# Altium integrated library Actel ProASIC PLUS.IntLib: 230 symbols (part 31 of 33)
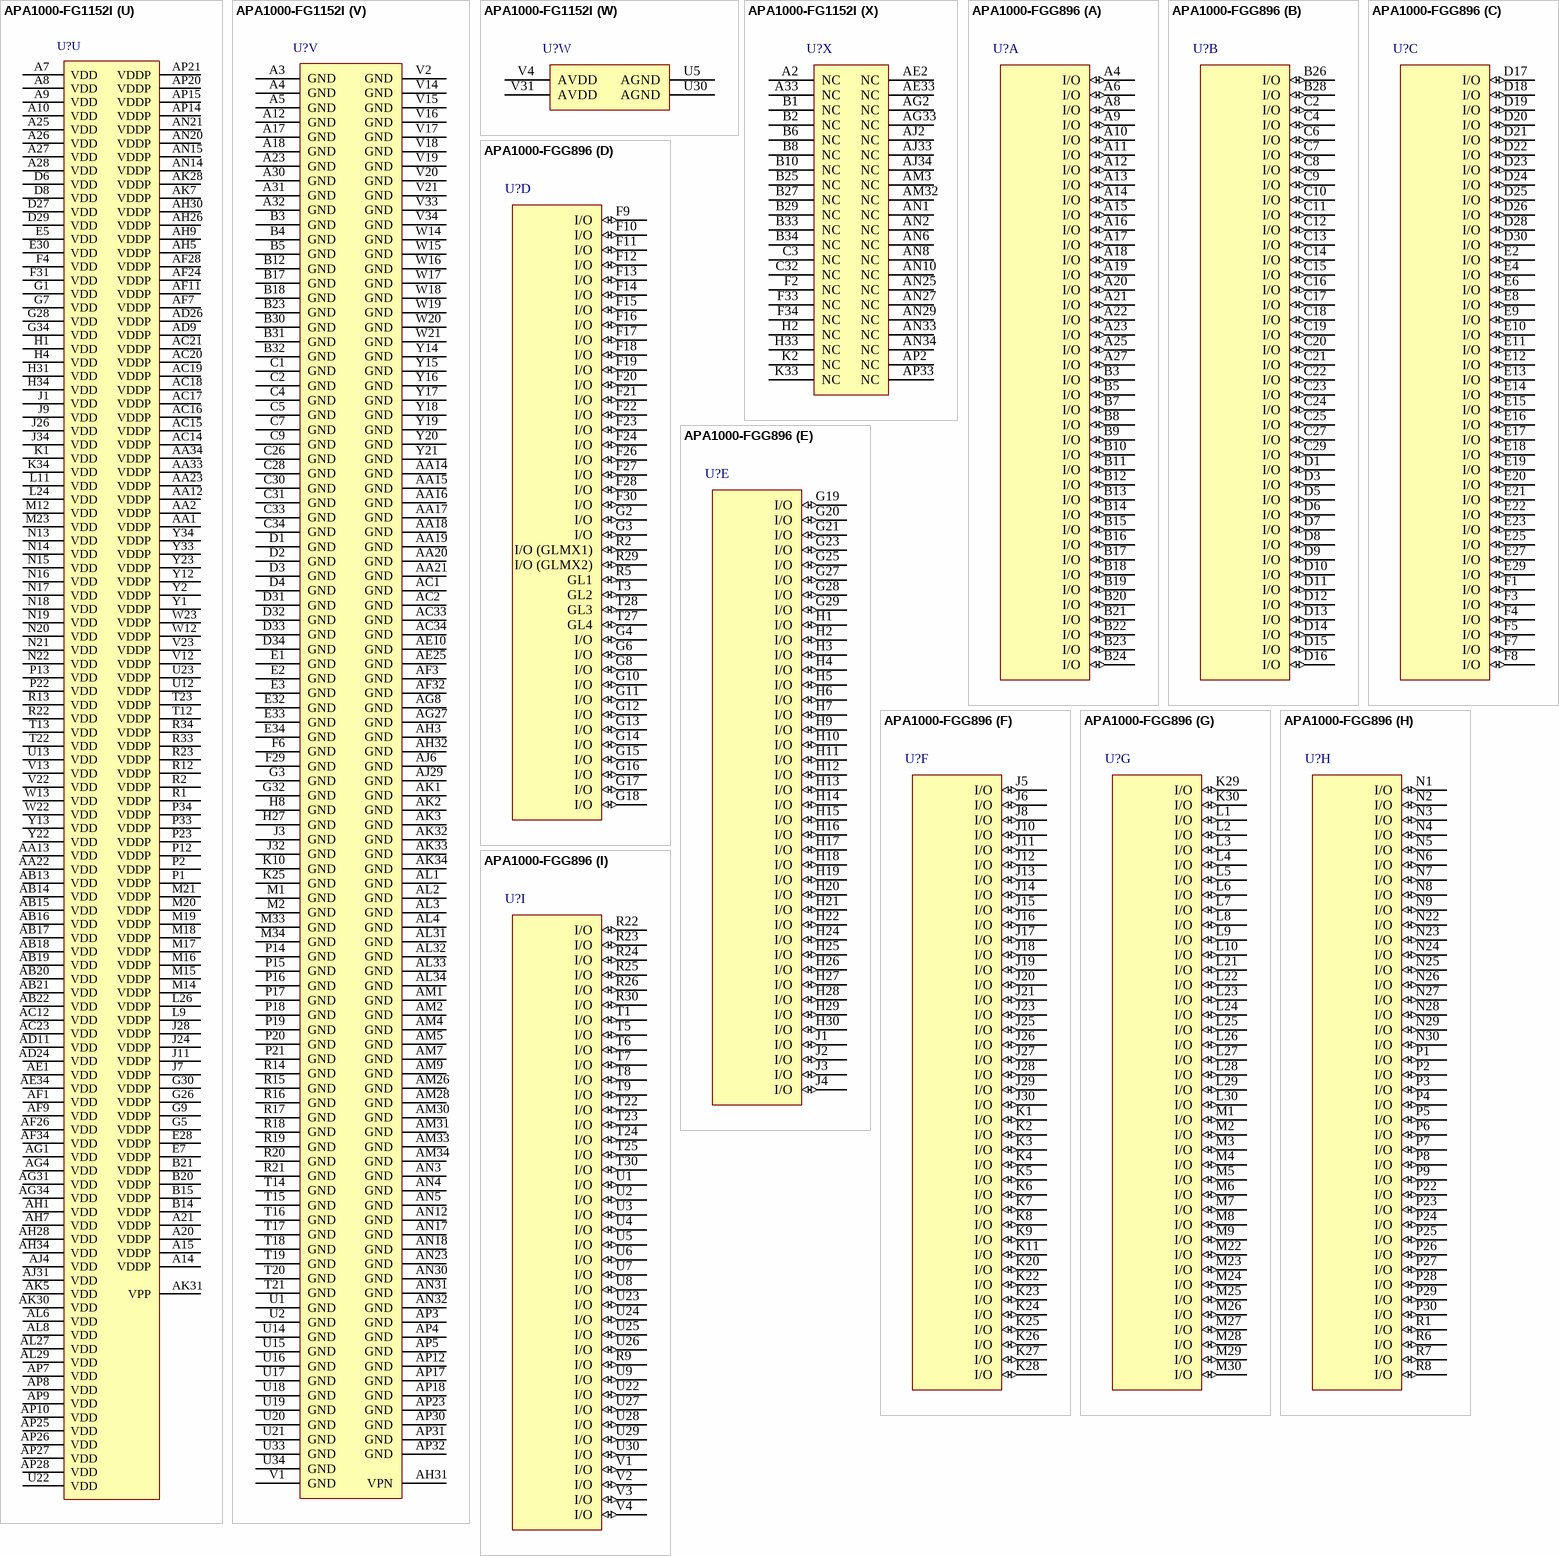
[diagram p193: symbols APA1000-FG1152I to APA1000-FGG896]

## APA1000-FG1152I
designator U?
ProASICPlus APA1000 Flash FPGA, 712 User IOs, 1152-Pin FBGA, Speed Grade Standard, Industrial Grade; Published: 21-May-2003; LatestRevisionDate: 13-Apr-2006; LatestRevisionNote: IPC-7351 Footprint Added.; DatasheetVersion: ver5.3, May-2006; PackageVersion: v9.4, Aug-2006; PackageReference: FG1152; Publisher: Altium Limited; PackageDescription: 1152-Ball Fine Pitch Plastic Ball Grid Array (FG1152); Code_JEDEC: MS-034-AAR-1; ComponentLink1Description: Manufacturer Link; ComponentLink1URL: http://www.actel.com/products/proasicplus/index.html; ComponentLink2Description: Datasheet; ComponentLink2URL: http://www.actel.com/documents/ProASICPlus_DS.pdf
footprint FG1152 (BGA, 1152-Leads, Body 35x35mm, Pitch 1mm)
3D model APA1000-FG1152 (1152-Ball Fine Pitch Plastic Ball Grid Array (FG1152))
part A pins: A6 I/O (io), A11 I/O (io), A13 I/O (io), A16 I/O (io), A19 I/O (io), A22 I/O (io), A24 I/O (io), A29 I/O (io), B7 I/O (io), B9 I/O (io), B11 I/O (io), B13 I/O (io), B16 I/O (io), B19 I/O (io), B22 I/O (io), B24 I/O (io), B26 I/O (io), B28 I/O (io), C6 I/O (io), C8 I/O (io), C10 I/O (io), C11 I/O (io), C12 I/O (io), C13 I/O (io), C14 I/O (io), C15 I/O (io), C16 I/O (io), C17 I/O (io), C18 I/O (io), C19 I/O (io), C20 I/O (io), C21 I/O (io), C22 I/O (io), C23 I/O (io), C24 I/O (io), C25 I/O (io), C27 I/O (io), C29 I/O (io), D5 I/O (io), D7 I/O (io)
part B pins: D9 I/O (io), D10 I/O (io), D11 I/O (io), D12 I/O (io), D13 I/O (io), D14 I/O (io), D15 I/O (io), D16 I/O (io), D17 I/O (io), D18 I/O (io), D19 I/O (io), D20 I/O (io), D21 I/O (io), D22 I/O (io), D23 I/O (io), D24 I/O (io), D25 I/O (io), D26 I/O (io), D28 I/O (io), D30 I/O (io), E4 I/O (io), E6 I/O (io), E8 I/O (io), E9 I/O (io), E10 I/O (io), E11 I/O (io), E12 I/O (io), E13 I/O (io), E14 I/O (io), E15 I/O (io), E16 I/O (io), E17 I/O (io), E18 I/O (io), E19 I/O (io), E20 I/O (io), E21 I/O (io), E22 I/O (io), E23 I/O (io), E24 I/O (io), E25 I/O (io)
part C pins: E26 I/O (io), E27 I/O (io), E29 I/O (io), E31 I/O (io), F1 I/O (io), F3 I/O (io), F5 I/O (io), F7 I/O (io), F8 I/O (io), F9 I/O (io), F10 I/O (io), F11 I/O (io), F12 I/O (io), F13 I/O (io), F14 I/O (io), F15 I/O (io), F16 I/O (io), F17 I/O (io), F18 I/O (io), F19 I/O (io), F20 I/O (io), F21 I/O (io), F22 I/O (io), F23 I/O (io), F24 I/O (io), F25 I/O (io), F26 I/O (io), F27 I/O (io), F28 I/O (io), F30 I/O (io), F32 I/O (io), G2 I/O (io), G4 I/O (io), G6 I/O (io), G8 I/O (io), G10 I/O (io), G11 I/O (io), G12 I/O (io), G13 I/O (io), G14 I/O (io)
part D pins: G15 I/O (io), G16 I/O (io), G17 I/O (io), G18 I/O (io), G19 I/O (io), G20 I/O (io), G21 I/O (io), G22 I/O (io), G23 I/O (io), G24 I/O (io), G25 I/O (io), G27 I/O (io), G29 I/O (io), G31 I/O (io), G33 I/O (io), H3 I/O (io), H5 I/O (io), H6 I/O (io), H7 I/O (io), H9 I/O (io), H10 I/O (io), H11 I/O (io), H12 I/O (io), H13 I/O (io), H14 I/O (io), H15 I/O (io), H16 I/O (io), H17 I/O (io), H18 I/O (io), H19 I/O (io), H20 I/O (io), H21 I/O (io), H22 I/O (io), H23 I/O (io), U4 I/O (GLMX1) (io), U7 GL1 (io), U31 I/O (GLMX2) (io), V5 GL2 (io), V29 GL4 (io), V30 GL3 (io)
part E pins: H24 I/O (io), H25 I/O (io), H26 I/O (io), H28 I/O (io), H29 I/O (io), H30 I/O (io), H32 I/O (io), J2 I/O (io), J4 I/O (io), J5 I/O (io), J6 I/O (io), J8 I/O (io), J10 I/O (io), J12 I/O (io), J13 I/O (io), J14 I/O (io), J15 I/O (io), J16 I/O (io), J17 I/O (io), J18 I/O (io), J19 I/O (io), J20 I/O (io), J21 I/O (io), J22 I/O (io), J23 I/O (io), J25 I/O (io), J27 I/O (io), J29 I/O (io), J30 I/O (io), J31 I/O (io), J33 I/O (io), K3 I/O (io), K4 I/O (io), K5 I/O (io), K6 I/O (io), K7 I/O (io), K8 I/O (io), K9 I/O (io), K11 I/O (io), K12 I/O (io)
part F pins: K13 I/O (io), K14 I/O (io), K15 I/O (io), K16 I/O (io), K17 I/O (io), K18 I/O (io), K19 I/O (io), K20 I/O (io), K21 I/O (io), K22 I/O (io), K23 I/O (io), K24 I/O (io), K26 I/O (io), K27 I/O (io), K28 I/O (io), K29 I/O (io), K30 I/O (io), K31 I/O (io), K32 I/O (io), L1 I/O (io), L2 I/O (io), L3 I/O (io), L4 I/O (io), L5 I/O (io), L6 I/O (io), L7 I/O (io), L8 I/O (io), L10 I/O (io), L12 I/O (io), L13 I/O (io), L14 I/O (io), L15 I/O (io), L16 I/O (io), L17 I/O (io), L18 I/O (io), L19 I/O (io), L20 I/O (io), L21 I/O (io), L22 I/O (io), L23 I/O (io)
part G pins: L25 I/O (io), L27 I/O (io), L28 I/O (io), L29 I/O (io), L30 I/O (io), L31 I/O (io), L32 I/O (io), L33 I/O (io), L34 I/O (io), M3 I/O (io), M4 I/O (io), M5 I/O (io), M6 I/O (io), M7 I/O (io), M8 I/O (io), M9 I/O (io), M10 I/O (io), M11 I/O (io), M13 I/O (io), M22 I/O (io), M24 I/O (io), M25 I/O (io), M26 I/O (io), M27 I/O (io), M28 I/O (io), M29 I/O (io), M30 I/O (io), M31 I/O (io), M32 I/O (io), N1 I/O (io), N2 I/O (io), N3 I/O (io), N4 I/O (io), N5 I/O (io), N6 I/O (io), N7 I/O (io), N8 I/O (io), N9 I/O (io), N10 I/O (io), N11 I/O (io)
part H pins: N12 I/O (io), N23 I/O (io), N24 I/O (io), N25 I/O (io), N26 I/O (io), N27 I/O (io), N28 I/O (io), N29 I/O (io), N30 I/O (io), N31 I/O (io), N32 I/O (io), N33 I/O (io), N34 I/O (io), P3 I/O (io), P4 I/O (io), P5 I/O (io), P6 I/O (io), P7 I/O (io), P8 I/O (io), P9 I/O (io), P10 I/O (io), P11 I/O (io), P24 I/O (io), P25 I/O (io), P26 I/O (io), P27 I/O (io), P28 I/O (io), P29 I/O (io), P30 I/O (io), P31 I/O (io), P32 I/O (io), R3 I/O (io), R4 I/O (io), R5 I/O (io), R6 I/O (io), R7 I/O (io), R8 I/O (io), R9 I/O (io), R10 I/O (io), R11 I/O (io)
part I pins: R24 I/O (io), R25 I/O (io), R26 I/O (io), R27 I/O (io), R28 I/O (io), R29 I/O (io), R30 I/O (io), R31 I/O (io), R32 I/O (io), T1 I/O (io), T2 I/O (io), T3 I/O (io), T4 I/O (io), T5 I/O (io), T6 I/O (io), T7 I/O (io), T8 I/O (io), T9 I/O (io), T10 I/O (io), T11 I/O (io), T24 I/O (io), T25 I/O (io), T26 I/O (io), T27 I/O (io), T28 I/O (io), T29 I/O (io), T30 I/O (io), T31 I/O (io), T32 I/O (io), T33 I/O (io), T34 I/O (io), U3 I/O (io), U8 I/O (io), U9 I/O (io), U10 I/O (io), U11 I/O (io), U24 I/O (io), U25 I/O (io), U26 I/O (io), U27 I/O (io)
part J pins: U28 I/O (io), U32 I/O (io), V3 I/O (io), V7 I/O (io), V8 I/O (io), V9 I/O (io), V10 I/O (io), V11 I/O (io), V24 I/O (io), V25 I/O (io), V26 I/O (io), V27 I/O (io), V32 I/O (io), W1 I/O (io), W2 I/O (io), W3 I/O (io), W4 I/O (io), W5 I/O (io), W6 I/O (io), W7 I/O (io), W8 I/O (io), W9 I/O (io), W10 I/O (io), W11 I/O (io), W24 I/O (io), W25 I/O (io), W26 I/O (io), W27 I/O (io), W28 I/O (io), W29 I/O (io), W30 I/O (io), W31 I/O (io), W32 I/O (io), W33 I/O (io), W34 I/O (io), Y3 I/O (io), Y4 I/O (io), Y5 I/O (io), Y6 I/O (io), Y7 I/O (io)
part K pins: AA3 I/O (io), AA4 I/O (io), AA5 I/O (io), AA6 I/O (io), AA7 I/O (io), AA8 I/O (io), AA9 I/O (io), AA10 I/O (io), AA11 I/O (io), AA24 I/O (io), AA25 I/O (io), AA26 I/O (io), AA27 I/O (io), AA28 I/O (io), AA29 I/O (io), AA30 I/O (io), AA31 I/O (io), AA32 I/O (io), AB1 I/O (io), AB2 I/O (io), AB3 I/O (io), AB4 I/O (io), AB5 I/O (io), AB6 I/O (io), AB7 I/O (io), AB8 I/O (io), AB9 I/O (io), Y8 I/O (io), Y9 I/O (io), Y10 I/O (io), Y11 I/O (io), Y24 I/O (io), Y25 I/O (io), Y26 I/O (io), Y27 I/O (io), Y28 I/O (io), Y29 I/O (io), Y30 I/O (io), Y31 I/O (io), Y32 I/O (io)
part L pins: AB10 I/O (io), AB11 I/O (io), AB12 I/O (io), AB23 I/O (io), AB24 I/O (io), AB25 I/O (io), AB26 I/O (io), AB27 I/O (io), AB28 I/O (io), AB29 I/O (io), AB30 I/O (io), AB31 I/O (io), AB32 I/O (io), AB33 I/O (io), AB34 I/O (io), AC3 I/O (io), AC4 I/O (io), AC5 I/O (io), AC6 I/O (io), AC7 I/O (io), AC8 I/O (io), AC9 I/O (io), AC10 I/O (io), AC11 I/O (io), AC13 I/O (io), AC22 I/O (io), AC24 I/O (io), AC25 I/O (io), AC26 I/O (io), AC27 I/O (io), AC28 I/O (io), AC29 I/O (io), AC30 I/O (io), AC31 I/O (io), AC32 I/O (io), AD1 I/O (io), AD2 I/O (io), AD3 I/O (io), AD4 I/O (io), AD5 I/O (io)
part M pins: AD6 I/O (io), AD7 I/O (io), AD8 I/O (io), AD10 I/O (io), AD12 I/O (io), AD13 I/O (io), AD14 I/O (io), AD15 I/O (io), AD16 I/O (io), AD17 I/O (io), AD18 I/O (io), AD19 I/O (io), AD20 I/O (io), AD21 I/O (io), AD22 I/O (io), AD23 I/O (io), AD25 I/O (io), AD27 I/O (io), AD28 I/O (io), AD29 I/O (io), AD30 I/O (io), AD31 I/O (io), AD32 I/O (io), AD33 I/O (io), AD34 I/O (io), AE3 I/O (io), AE4 I/O (io), AE5 I/O (io), AE6 I/O (io), AE7 I/O (io), AE8 I/O (io), AE9 I/O (io), AE11 I/O (io), AE12 I/O (io), AE13 I/O (io), AE14 I/O (io), AE15 I/O (io), AE16 I/O (io), AE17 I/O (io), AE18 I/O (io)
part N pins: AE19 I/O (io), AE20 I/O (io), AE21 I/O (io), AE22 I/O (io), AE23 I/O (io), AE24 I/O (io), AE26 I/O (io), AE27 I/O (io), AE28 I/O (io), AE29 I/O (io), AE30 I/O (io), AE31 I/O (io), AE32 I/O (io), AF2 I/O (io), AF4 I/O (io), AF5 I/O (io), AF6 I/O (io), AF8 I/O (io), AF10 I/O (io), AF12 I/O (io), AF13 I/O (io), AF14 I/O (io), AF15 I/O (io), AF16 I/O (io), AF17 I/O (io), AF18 I/O (io), AF19 I/O (io), AF20 I/O (io), AF21 I/O (io), AF22 I/O (io), AF23 I/O (io), AF29 I/O (io), AF30 I/O (io), AF31 I/O (io), AF33 I/O (io), AG3 I/O (io), AG5 I/O (io), AG6 I/O (io), AG7 I/O (io), AG9 I/O (io)
part O pins: AG10 I/O (io), AG11 I/O (io), AG12 I/O (io), AG13 I/O (io), AG14 I/O (io), AG15 I/O (io), AG16 I/O (io), AG17 I/O (io), AG18 I/O (io), AG19 I/O (io), AG20 I/O (io), AG21 I/O (io), AG22 I/O (io), AG23 I/O (io), AG24 I/O (io), AG25 I/O (io), AG26 I/O (io), AG28 I/O (io), AG29 I/O (io), AG30 I/O (io), AG32 I/O (io), AH2 I/O (io), AH4 I/O (io), AH6 I/O (io), AH8 I/O (io), AH10 I/O (io), AH11 I/O (io), AH12 I/O (io), AH13 I/O (io), AH14 I/O (io), AH15 I/O (io), AH16 I/O (io), AH17 I/O (io), AH18 I/O (io), AH19 I/O (io), AH20 I/O (io), AH21 I/O (io), AH22 I/O (io), AH23 I/O (io), AH24 I/O (io)
part P pins: AH25 I/O (io), AH27 I/O (io), AH33 I/O (io), AJ1 I/O (io), AJ3 I/O (io), AJ5 I/O (io), AJ7 I/O (io), AJ8 I/O (io), AJ9 I/O (io), AJ10 I/O (io), AJ11 I/O (io), AJ12 I/O (io), AJ13 I/O (io), AJ14 I/O (io), AJ15 I/O (io), AJ16 I/O (io), AJ17 I/O (io), AJ18 I/O (io), AJ19 I/O (io), AJ20 I/O (io), AJ21 I/O (io), AJ22 I/O (io), AJ23 I/O (io), AJ24 I/O (io), AJ25 I/O (io), AJ26 I/O (io), AJ27 I/O (io), AJ28 I/O (io), AJ32 I/O (io), AK4 I/O (io), AK6 I/O (io), AK8 I/O (io), AK9 I/O (io), AK10 I/O (io), AK11 I/O (io), AK12 I/O (io), AK13 I/O (io), AK14 I/O (io), AK15 I/O (io), AK16 I/O (io)
part Q pins: AK17 I/O (io), AK18 I/O (io), AK19 I/O (io), AK20 I/O (io), AK21 I/O (io), AK22 I/O (io), AK23 I/O (io), AK24 I/O (io), AK25 I/O (io), AK26 I/O (io), AK27 I/O (io), AL5 I/O (io), AL7 I/O (io), AL9 I/O (io), AL10 I/O (io), AL11 I/O (io), AL12 I/O (io), AL13 I/O (io), AL14 I/O (io), AL15 I/O (io), AL16 I/O (io), AL17 I/O (io), AL18 I/O (io), AL19 I/O (io), AL20 I/O (io), AL21 I/O (io), AL22 I/O (io), AL23 I/O (io), AL24 I/O (io), AL25 I/O (io), AL26 I/O (io), AL28 I/O (io), AM6 I/O (io), AM8 I/O (io), AM10 I/O (io), AM11 I/O (io), AM12 I/O (io), AM13 I/O (io), AM14 I/O (io), AM15 I/O (io)
part R pins: AM16 I/O (io), AM17 I/O (io), AM18 I/O (io), AM19 I/O (io), AM20 I/O (io), AM21 I/O (io), AM22 I/O (io), AM23 I/O (io), AM24 I/O (io), AM25 I/O (io), AM27 I/O (io), AM29 I/O (io), AN7 I/O (io), AN9 I/O (io), AN11 I/O (io), AN13 I/O (io), AN16 I/O (io), AN19 I/O (io), AN22 I/O (io), AN24 I/O (io), AN26 I/O (io), AN28 I/O (io), AP6 I/O (io), AP11 I/O (io), AP13 I/O (io), AP16 I/O (io), AP19 I/O (io), AP22 I/O (io), AP24 I/O (io), AP29 I/O (io)
part S pins: U6 NPECL1 (in), U29 NPECL2 (in), V6 PPECL1 (I/P) (in), V28 PPECL2 (I/P) (in)
part T pins: AF25 TCK (in), AF27 ~{TRST} (in), AH29 TDO (out), AJ30 RCK (in), AK29 TDI (in), AL30 TMS (in)
part U pins: A7 VDD (power), A8 VDD (power), A9 VDD (power), A10 VDD (power), A14 VDDP (power), A15 VDDP (power), A20 VDDP (power), A21 VDDP (power), A25 VDD (power), A26 VDD (power), A27 VDD (power), A28 VDD (power), AA1 VDDP (power), AA2 VDDP (power), AA12 VDDP (power), AA13 VDD (power), AA22 VDD (power), AA23 VDDP (power), AA33 VDDP (power), AA34 VDDP (power), AB13 VDD (power), AB14 VDD (power), AB15 VDD (power), AB16 VDD (power), AB17 VDD (power), AB18 VDD (power), AB19 VDD (power), AB20 VDD (power), AB21 VDD (power), AB22 VDD (power), AC12 VDD (power), AC14 VDDP (power), AC15 VDDP (power), AC16 VDDP (power), AC17 VDDP (power), AC18 VDDP (power), AC19 VDDP (power), AC20 VDDP (power), AC21 VDDP (power), AC23 VDD (power), AD9 VDDP (power), AD11 VDD (power), AD24 VDD (power), AD26 VDDP (power), AE1 VDD (power), AE34 VDD (power), AF1 VDD (power), AF7 VDDP (power), AF9 VDD (power), AF11 VDDP (power), AF24 VDDP (power), AF26 VDD (power), AF28 VDDP (power), AF34 VDD (power), AG1 VDD (power), AG4 VDD (power), AG31 VDD (power), AG34 VDD (power), AH1 VDD (power), AH5 VDDP (power), AH7 VDD (power), AH9 VDDP (power), AH26 VDDP (power), AH28 VDD (power), AH30 VDDP (power), AH34 VDD (power), AJ4 VDD (power), AJ31 VDD (power), AK5 VDD (power), AK7 VDDP (power), AK28 VDDP (power), AK30 VDD (power), AK31 VPP (power), AL6 VDD (power), AL8 VDD (power), AL27 VDD (power), AL29 VDD (power), AN14 VDDP (power), AN15 VDDP (power), AN20 VDDP (power), AN21 VDDP (power), AP7 VDD (power), AP8 VDD (power), AP9 VDD (power), AP10 VDD (power), AP14 VDDP (power), AP15 VDDP (power), AP20 VDDP (power), AP21 VDDP (power), AP25 VDD (power), AP26 VDD (power), AP27 VDD (power), AP28 VDD (power), B14 VDDP (power), B15 VDDP (power), B20 VDDP (power), B21 VDDP (power), D6 VDD (power), D8 VDD (power), D27 VDD (power), D29 VDD (power), E5 VDD (power), E7 VDDP (power), E28 VDDP (power), E30 VDD (power), F4 VDD (power), F31 VDD (power), G1 VDD (power), G5 VDDP (power), G7 VDD (power), G9 VDDP (power), G26 VDDP (power), G28 VDD (power), G30 VDDP (power), G34 VDD (power), H1 VDD (power), H4 VDD (power), H31 VDD (power), H34 VDD (power), J1 VDD (power), J7 VDDP (power), J9 VDD (power), J11 VDDP (power), J24 VDDP (power), J26 VDD (power), J28 VDDP (power), J34 VDD (power), K1 VDD (power), K34 VDD (power), L9 VDDP (power), L11 VDD (power), L24 VDD (power), L26 VDDP (power), M12 VDD (power), M14 VDDP (power), M15 VDDP (power), M16 VDDP (power), M17 VDDP (power), M18 VDDP (power), M19 VDDP (power), M20 VDDP (power), M21 VDDP (power), M23 VDD (power), N13 VDD (power), N14 VDD (power), N15 VDD (power), N16 VDD (power), N17 VDD (power), N18 VDD (power), N19 VDD (power), N20 VDD (power), N21 VDD (power), N22 VDD (power), P1 VDDP (power), P2 VDDP (power), P12 VDDP (power), P13 VDD (power), P22 VDD (power), P23 VDDP (power), P33 VDDP (power), P34 VDDP (power), R1 VDDP (power), R2 VDDP (power), R12 VDDP (power), R13 VDD (power), R22 VDD (power), R23 VDDP (power), R33 VDDP (power), R34 VDDP (power), T12 VDDP (power), T13 VDD (power), T22 VDD (power), T23 VDDP (power), U12 VDDP (power), U13 VDD (power), U22 VDD (power), U23 VDDP (power), V12 VDDP (power), V13 VDD (power), V22 VDD (power), V23 VDDP (power), W12 VDDP (power), W13 VDD (power), W22 VDD (power), W23 VDDP (power), Y1 VDDP (power), Y2 VDDP (power), Y12 VDDP (power), Y13 VDD (power), Y22 VDD (power), Y23 VDDP (power), Y33 VDDP (power), Y34 VDDP (power)
part V pins: A3 GND (power), A4 GND (power), A5 GND (power), A12 GND (power), A17 GND (power), A18 GND (power), A23 GND (power), A30 GND (power), A31 GND (power), A32 GND (power), AA14 GND (power), AA15 GND (power), AA16 GND (power), AA17 GND (power), AA18 GND (power), AA19 GND (power), AA20 GND (power), AA21 GND (power), AC1 GND (power), AC2 GND (power), AC33 GND (power), AC34 GND (power), AE10 GND (power), AE25 GND (power), AF3 GND (power), AF32 GND (power), AG8 GND (power), AG27 GND (power), AH3 GND (power), AH31 VPN (power), AH32 GND (power), AJ6 GND (power), AJ29 GND (power), AK1 GND (power), AK2 GND (power), AK3 GND (power), AK32 GND (power), AK33 GND (power), AK34 GND (power), AL1 GND (power), AL2 GND (power), AL3 GND (power), AL4 GND (power), AL31 GND (power), AL32 GND (power), AL33 GND (power), AL34 GND (power), AM1 GND (power), AM2 GND (power), AM4 GND (power), AM5 GND (power), AM7 GND (power), AM9 GND (power), AM26 GND (power), AM28 GND (power), AM30 GND (power), AM31 GND (power), AM33 GND (power), AM34 GND (power), AN3 GND (power), AN4 GND (power), AN5 GND (power), AN12 GND (power), AN17 GND (power), AN18 GND (power), AN23 GND (power), AN30 GND (power), AN31 GND (power), AN32 GND (power), AP3 GND (power), AP4 GND (power), AP5 GND (power), AP12 GND (power), AP17 GND (power), AP18 GND (power), AP23 GND (power), AP30 GND (power), AP31 GND (power), AP32 GND (power), B3 GND (power), B4 GND (power), B5 GND (power), B12 GND (power), B17 GND (power), B18 GND (power), B23 GND (power), B30 GND (power), B31 GND (power), B32 GND (power), C1 GND (power), C2 GND (power), C4 GND (power), C5 GND (power), C7 GND (power), C9 GND (power), C26 GND (power), C28 GND (power), C30 GND (power), C31 GND (power), C33 GND (power), C34 GND (power), D1 GND (power), D2 GND (power), D3 GND (power), D4 GND (power), D31 GND (power), D32 GND (power), D33 GND (power), D34 GND (power), E1 GND (power), E2 GND (power), E3 GND (power), E32 GND (power), E33 GND (power), E34 GND (power), F6 GND (power), F29 GND (power), G3 GND (power), G32 GND (power), H8 GND (power), H27 GND (power), J3 GND (power), J32 GND (power), K10 GND (power), K25 GND (power), M1 GND (power), M2 GND (power), M33 GND (power), M34 GND (power), P14 GND (power), P15 GND (power), P16 GND (power), P17 GND (power), P18 GND (power), P19 GND (power), P20 GND (power), P21 GND (power), R14 GND (power), R15 GND (power), R16 GND (power), R17 GND (power), R18 GND (power), R19 GND (power), R20 GND (power), R21 GND (power), T14 GND (power), T15 GND (power), T16 GND (power), T17 GND (power), T18 GND (power), T19 GND (power), T20 GND (power), T21 GND (power), U1 GND (power), U2 GND (power), U14 GND (power), U15 GND (power), U16 GND (power), U17 GND (power), U18 GND (power), U19 GND (power), U20 GND (power), U21 GND (power), U33 GND (power), U34 GND (power), V1 GND (power), V2 GND (power), V14 GND (power), V15 GND (power), V16 GND (power), V17 GND (power), V18 GND (power), V19 GND (power), V20 GND (power), V21 GND (power), V33 GND (power), V34 GND (power), W14 GND (power), W15 GND (power), W16 GND (power), W17 GND (power), W18 GND (power), W19 GND (power), W20 GND (power), W21 GND (power), Y14 GND (power), Y15 GND (power), Y16 GND (power), Y17 GND (power), Y18 GND (power), Y19 GND (power), Y20 GND (power), Y21 GND (power)
part W pins: U5 AGND (power), U30 AGND (power), V4 AVDD (power), V31 AVDD (power)
part X pins: A2 NC, A33 NC, AE2 NC, AE33 NC, AG2 NC, AG33 NC, AJ2 NC, AJ33 NC, AJ34 NC, AM3 NC, AM32 NC, AN1 NC, AN2 NC, AN6 NC, AN8 NC, AN10 NC, AN25 NC, AN27 NC, AN29 NC, AN33 NC, AN34 NC, AP2 NC, AP33 NC, B1 NC, B2 NC, B6 NC, B8 NC, B10 NC, B25 NC, B27 NC, B29 NC, B33 NC, B34 NC, C3 NC, C32 NC, F2 NC, F33 NC, F34 NC, H2 NC, H33 NC, K2 NC, K33 NC

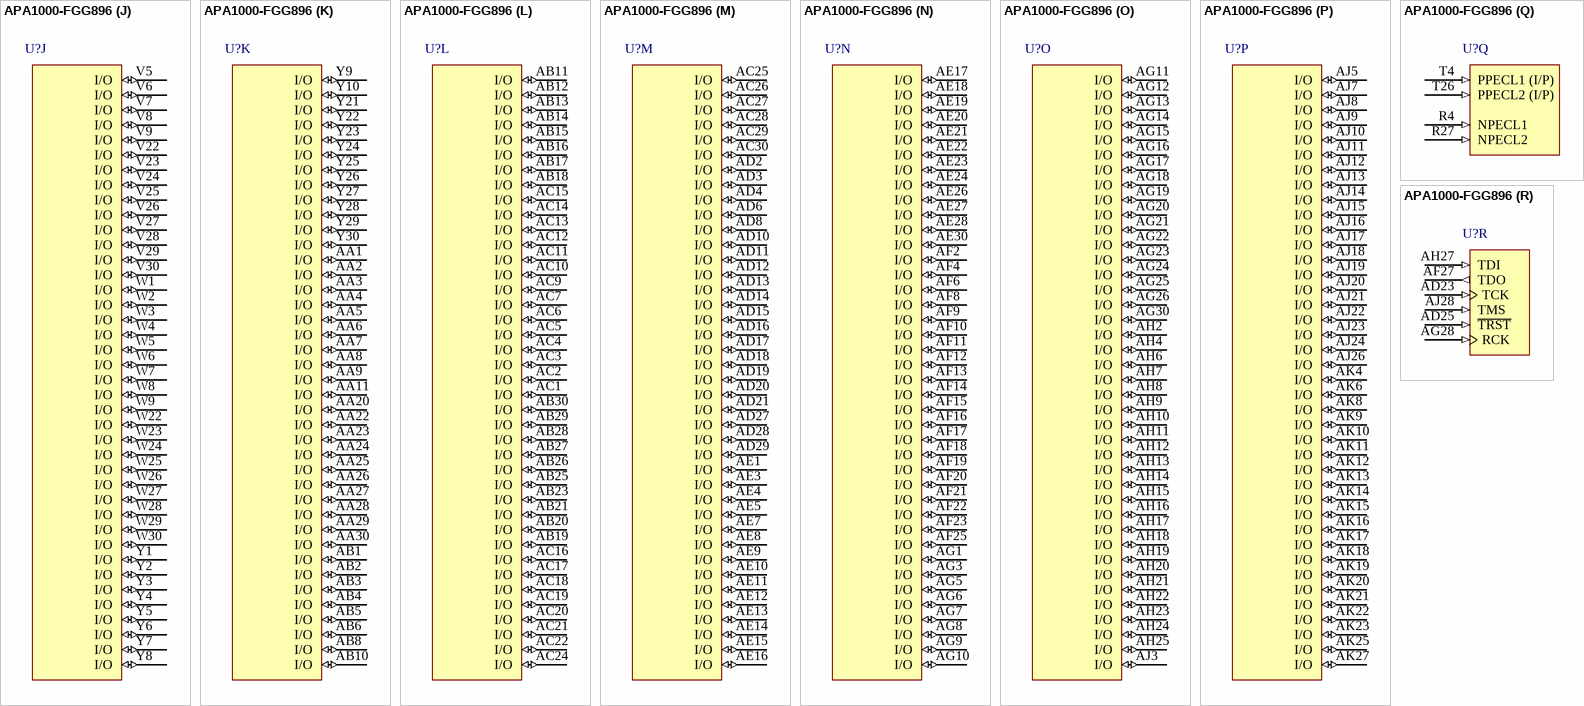
[diagram p152: symbol APA1000-FGG896]

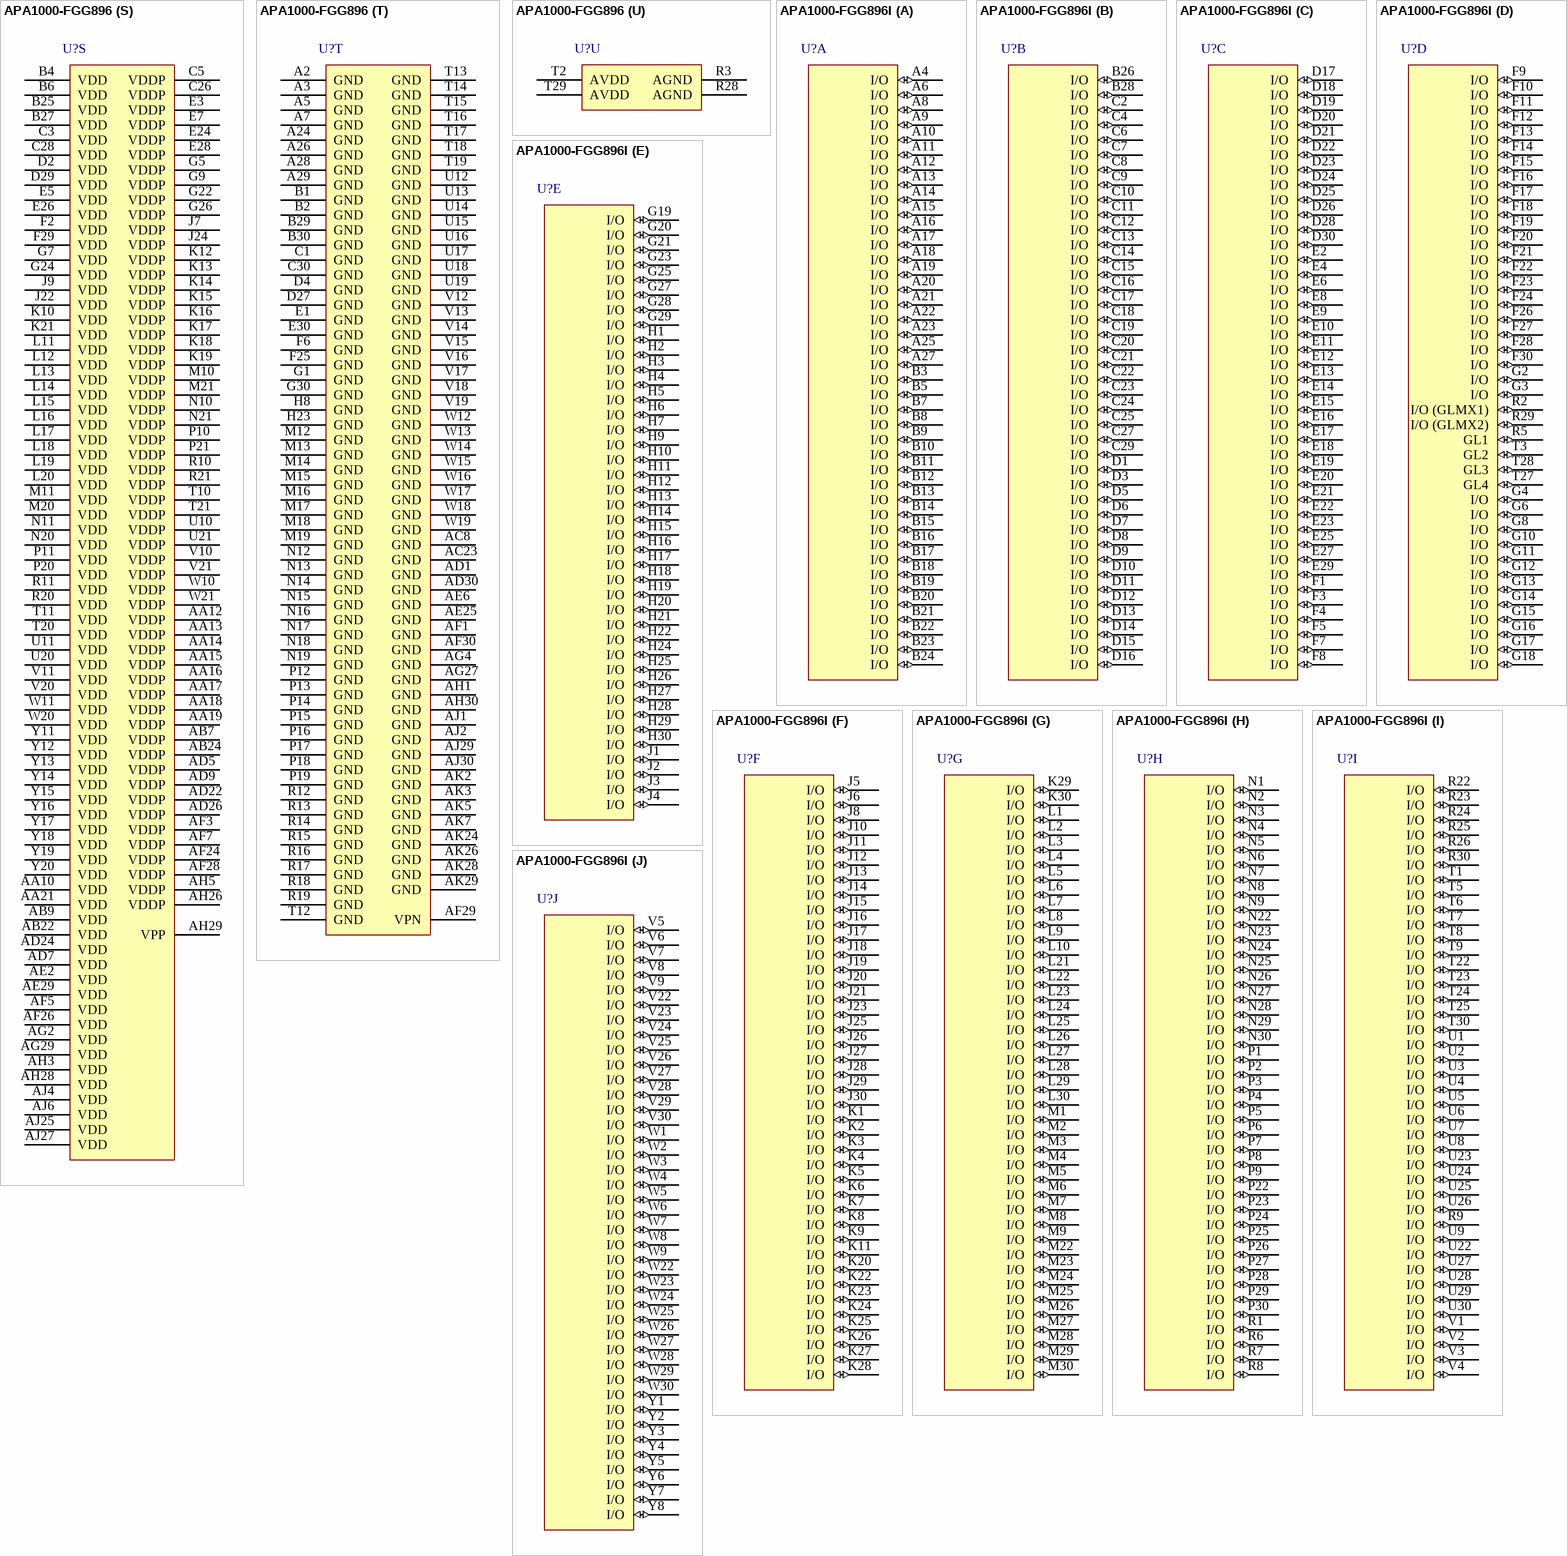
[diagram p153: symbols APA1000-FGG896 to APA1000-FGG896I]

## APA1000-FGG896
designator U?
ProASICPlus APA1000 Flash FPGA, 642 User IOs, 896-Pin FBGA, Speed Grade Standard, Commercial Grade, Pb-Free; Published: 16-Dec-2005; LatestRevisionDate: 13-Apr-2006; LatestRevisionNote: IPC-7351 Footprint Added.; DatasheetVersion: ver5.3, May-2006; PackageVersion: v9.4, Aug-2006; PackageReference: FG896; Publisher: Altium Limited; PackageDescription: 896-Ball Fine Pitch Plastic Ball Grid Array (FG896); Code_JEDEC: MS-034-AAN-1; ComponentLink1Description: Manufacturer Link; ComponentLink1URL: http://www.actel.com/products/proasicplus/index.html; ComponentLink2Description: Datasheet; ComponentLink2URL: http://www.actel.com/documents/ProASICPlus_DS.pdf
footprint FG896 (BGA, 896-Leads, Body 31x31mm, Pitch 1mm)
3D model APA1000-FG896 (896-Ball Fine Pitch Plastic Ball Grid Array (FG896))
part A pins: A4 I/O (io), A6 I/O (io), A8 I/O (io), A9 I/O (io), A10 I/O (io), A11 I/O (io), A12 I/O (io), A13 I/O (io), A14 I/O (io), A15 I/O (io), A16 I/O (io), A17 I/O (io), A18 I/O (io), A19 I/O (io), A20 I/O (io), A21 I/O (io), A22 I/O (io), A23 I/O (io), A25 I/O (io), A27 I/O (io), B3 I/O (io), B5 I/O (io), B7 I/O (io), B8 I/O (io), B9 I/O (io), B10 I/O (io), B11 I/O (io), B12 I/O (io), B13 I/O (io), B14 I/O (io), B15 I/O (io), B16 I/O (io), B17 I/O (io), B18 I/O (io), B19 I/O (io), B20 I/O (io), B21 I/O (io), B22 I/O (io), B23 I/O (io), B24 I/O (io)
part B pins: B26 I/O (io), B28 I/O (io), C2 I/O (io), C4 I/O (io), C6 I/O (io), C7 I/O (io), C8 I/O (io), C9 I/O (io), C10 I/O (io), C11 I/O (io), C12 I/O (io), C13 I/O (io), C14 I/O (io), C15 I/O (io), C16 I/O (io), C17 I/O (io), C18 I/O (io), C19 I/O (io), C20 I/O (io), C21 I/O (io), C22 I/O (io), C23 I/O (io), C24 I/O (io), C25 I/O (io), C27 I/O (io), C29 I/O (io), D1 I/O (io), D3 I/O (io), D5 I/O (io), D6 I/O (io), D7 I/O (io), D8 I/O (io), D9 I/O (io), D10 I/O (io), D11 I/O (io), D12 I/O (io), D13 I/O (io), D14 I/O (io), D15 I/O (io), D16 I/O (io)
part C pins: D17 I/O (io), D18 I/O (io), D19 I/O (io), D20 I/O (io), D21 I/O (io), D22 I/O (io), D23 I/O (io), D24 I/O (io), D25 I/O (io), D26 I/O (io), D28 I/O (io), D30 I/O (io), E2 I/O (io), E4 I/O (io), E6 I/O (io), E8 I/O (io), E9 I/O (io), E10 I/O (io), E11 I/O (io), E12 I/O (io), E13 I/O (io), E14 I/O (io), E15 I/O (io), E16 I/O (io), E17 I/O (io), E18 I/O (io), E19 I/O (io), E20 I/O (io), E21 I/O (io), E22 I/O (io), E23 I/O (io), E25 I/O (io), E27 I/O (io), E29 I/O (io), F1 I/O (io), F3 I/O (io), F4 I/O (io), F5 I/O (io), F7 I/O (io), F8 I/O (io)
part D pins: F9 I/O (io), F10 I/O (io), F11 I/O (io), F12 I/O (io), F13 I/O (io), F14 I/O (io), F15 I/O (io), F16 I/O (io), F17 I/O (io), F18 I/O (io), F19 I/O (io), F20 I/O (io), F21 I/O (io), F22 I/O (io), F23 I/O (io), F24 I/O (io), F26 I/O (io), F27 I/O (io), F28 I/O (io), F30 I/O (io), G2 I/O (io), G3 I/O (io), G4 I/O (io), G6 I/O (io), G8 I/O (io), G10 I/O (io), G11 I/O (io), G12 I/O (io), G13 I/O (io), G14 I/O (io), G15 I/O (io), G16 I/O (io), G17 I/O (io), G18 I/O (io), R2 I/O (GLMX1) (io), R5 GL1 (io), R29 I/O (GLMX2) (io), T3 GL2 (io), T27 GL4 (io), T28 GL3 (io)
part E pins: G19 I/O (io), G20 I/O (io), G21 I/O (io), G23 I/O (io), G25 I/O (io), G27 I/O (io), G28 I/O (io), G29 I/O (io), H1 I/O (io), H2 I/O (io), H3 I/O (io), H4 I/O (io), H5 I/O (io), H6 I/O (io), H7 I/O (io), H9 I/O (io), H10 I/O (io), H11 I/O (io), H12 I/O (io), H13 I/O (io), H14 I/O (io), H15 I/O (io), H16 I/O (io), H17 I/O (io), H18 I/O (io), H19 I/O (io), H20 I/O (io), H21 I/O (io), H22 I/O (io), H24 I/O (io), H25 I/O (io), H26 I/O (io), H27 I/O (io), H28 I/O (io), H29 I/O (io), H30 I/O (io), J1 I/O (io), J2 I/O (io), J3 I/O (io), J4 I/O (io)
part F pins: J5 I/O (io), J6 I/O (io), J8 I/O (io), J10 I/O (io), J11 I/O (io), J12 I/O (io), J13 I/O (io), J14 I/O (io), J15 I/O (io), J16 I/O (io), J17 I/O (io), J18 I/O (io), J19 I/O (io), J20 I/O (io), J21 I/O (io), J23 I/O (io), J25 I/O (io), J26 I/O (io), J27 I/O (io), J28 I/O (io), J29 I/O (io), J30 I/O (io), K1 I/O (io), K2 I/O (io), K3 I/O (io), K4 I/O (io), K5 I/O (io), K6 I/O (io), K7 I/O (io), K8 I/O (io), K9 I/O (io), K11 I/O (io), K20 I/O (io), K22 I/O (io), K23 I/O (io), K24 I/O (io), K25 I/O (io), K26 I/O (io), K27 I/O (io), K28 I/O (io)
part G pins: K29 I/O (io), K30 I/O (io), L1 I/O (io), L2 I/O (io), L3 I/O (io), L4 I/O (io), L5 I/O (io), L6 I/O (io), L7 I/O (io), L8 I/O (io), L9 I/O (io), L10 I/O (io), L21 I/O (io), L22 I/O (io), L23 I/O (io), L24 I/O (io), L25 I/O (io), L26 I/O (io), L27 I/O (io), L28 I/O (io), L29 I/O (io), L30 I/O (io), M1 I/O (io), M2 I/O (io), M3 I/O (io), M4 I/O (io), M5 I/O (io), M6 I/O (io), M7 I/O (io), M8 I/O (io), M9 I/O (io), M22 I/O (io), M23 I/O (io), M24 I/O (io), M25 I/O (io), M26 I/O (io), M27 I/O (io), M28 I/O (io), M29 I/O (io), M30 I/O (io)
part H pins: N1 I/O (io), N2 I/O (io), N3 I/O (io), N4 I/O (io), N5 I/O (io), N6 I/O (io), N7 I/O (io), N8 I/O (io), N9 I/O (io), N22 I/O (io), N23 I/O (io), N24 I/O (io), N25 I/O (io), N26 I/O (io), N27 I/O (io), N28 I/O (io), N29 I/O (io), N30 I/O (io), P1 I/O (io), P2 I/O (io), P3 I/O (io), P4 I/O (io), P5 I/O (io), P6 I/O (io), P7 I/O (io), P8 I/O (io), P9 I/O (io), P22 I/O (io), P23 I/O (io), P24 I/O (io), P25 I/O (io), P26 I/O (io), P27 I/O (io), P28 I/O (io), P29 I/O (io), P30 I/O (io), R1 I/O (io), R6 I/O (io), R7 I/O (io), R8 I/O (io)
part I pins: R9 I/O (io), R22 I/O (io), R23 I/O (io), R24 I/O (io), R25 I/O (io), R26 I/O (io), R30 I/O (io), T1 I/O (io), T5 I/O (io), T6 I/O (io), T7 I/O (io), T8 I/O (io), T9 I/O (io), T22 I/O (io), T23 I/O (io), T24 I/O (io), T25 I/O (io), T30 I/O (io), U1 I/O (io), U2 I/O (io), U3 I/O (io), U4 I/O (io), U5 I/O (io), U6 I/O (io), U7 I/O (io), U8 I/O (io), U9 I/O (io), U22 I/O (io), U23 I/O (io), U24 I/O (io), U25 I/O (io), U26 I/O (io), U27 I/O (io), U28 I/O (io), U29 I/O (io), U30 I/O (io), V1 I/O (io), V2 I/O (io), V3 I/O (io), V4 I/O (io)
part J pins: V5 I/O (io), V6 I/O (io), V7 I/O (io), V8 I/O (io), V9 I/O (io), V22 I/O (io), V23 I/O (io), V24 I/O (io), V25 I/O (io), V26 I/O (io), V27 I/O (io), V28 I/O (io), V29 I/O (io), V30 I/O (io), W1 I/O (io), W2 I/O (io), W3 I/O (io), W4 I/O (io), W5 I/O (io), W6 I/O (io), W7 I/O (io), W8 I/O (io), W9 I/O (io), W22 I/O (io), W23 I/O (io), W24 I/O (io), W25 I/O (io), W26 I/O (io), W27 I/O (io), W28 I/O (io), W29 I/O (io), W30 I/O (io), Y1 I/O (io), Y2 I/O (io), Y3 I/O (io), Y4 I/O (io), Y5 I/O (io), Y6 I/O (io), Y7 I/O (io), Y8 I/O (io)
part K pins: AA1 I/O (io), AA2 I/O (io), AA3 I/O (io), AA4 I/O (io), AA5 I/O (io), AA6 I/O (io), AA7 I/O (io), AA8 I/O (io), AA9 I/O (io), AA11 I/O (io), AA20 I/O (io), AA22 I/O (io), AA23 I/O (io), AA24 I/O (io), AA25 I/O (io), AA26 I/O (io), AA27 I/O (io), AA28 I/O (io), AA29 I/O (io), AA30 I/O (io), AB1 I/O (io), AB2 I/O (io), AB3 I/O (io), AB4 I/O (io), AB5 I/O (io), AB6 I/O (io), AB8 I/O (io), AB10 I/O (io), Y9 I/O (io), Y10 I/O (io), Y21 I/O (io), Y22 I/O (io), Y23 I/O (io), Y24 I/O (io), Y25 I/O (io), Y26 I/O (io), Y27 I/O (io), Y28 I/O (io), Y29 I/O (io), Y30 I/O (io)
part L pins: AB11 I/O (io), AB12 I/O (io), AB13 I/O (io), AB14 I/O (io), AB15 I/O (io), AB16 I/O (io), AB17 I/O (io), AB18 I/O (io), AB19 I/O (io), AB20 I/O (io), AB21 I/O (io), AB23 I/O (io), AB25 I/O (io), AB26 I/O (io), AB27 I/O (io), AB28 I/O (io), AB29 I/O (io), AB30 I/O (io), AC1 I/O (io), AC2 I/O (io), AC3 I/O (io), AC4 I/O (io), AC5 I/O (io), AC6 I/O (io), AC7 I/O (io), AC9 I/O (io), AC10 I/O (io), AC11 I/O (io), AC12 I/O (io), AC13 I/O (io), AC14 I/O (io), AC15 I/O (io), AC16 I/O (io), AC17 I/O (io), AC18 I/O (io), AC19 I/O (io), AC20 I/O (io), AC21 I/O (io), AC22 I/O (io), AC24 I/O (io)
part M pins: AC25 I/O (io), AC26 I/O (io), AC27 I/O (io), AC28 I/O (io), AC29 I/O (io), AC30 I/O (io), AD2 I/O (io), AD3 I/O (io), AD4 I/O (io), AD6 I/O (io), AD8 I/O (io), AD10 I/O (io), AD11 I/O (io), AD12 I/O (io), AD13 I/O (io), AD14 I/O (io), AD15 I/O (io), AD16 I/O (io), AD17 I/O (io), AD18 I/O (io), AD19 I/O (io), AD20 I/O (io), AD21 I/O (io), AD27 I/O (io), AD28 I/O (io), AD29 I/O (io), AE1 I/O (io), AE3 I/O (io), AE4 I/O (io), AE5 I/O (io), AE7 I/O (io), AE8 I/O (io), AE9 I/O (io), AE10 I/O (io), AE11 I/O (io), AE12 I/O (io), AE13 I/O (io), AE14 I/O (io), AE15 I/O (io), AE16 I/O (io)
part N pins: AE17 I/O (io), AE18 I/O (io), AE19 I/O (io), AE20 I/O (io), AE21 I/O (io), AE22 I/O (io), AE23 I/O (io), AE24 I/O (io), AE26 I/O (io), AE27 I/O (io), AE28 I/O (io), AE30 I/O (io), AF2 I/O (io), AF4 I/O (io), AF6 I/O (io), AF8 I/O (io), AF9 I/O (io), AF10 I/O (io), AF11 I/O (io), AF12 I/O (io), AF13 I/O (io), AF14 I/O (io), AF15 I/O (io), AF16 I/O (io), AF17 I/O (io), AF18 I/O (io), AF19 I/O (io), AF20 I/O (io), AF21 I/O (io), AF22 I/O (io), AF23 I/O (io), AF25 I/O (io), AG1 I/O (io), AG3 I/O (io), AG5 I/O (io), AG6 I/O (io), AG7 I/O (io), AG8 I/O (io), AG9 I/O (io), AG10 I/O (io)
part O pins: AG11 I/O (io), AG12 I/O (io), AG13 I/O (io), AG14 I/O (io), AG15 I/O (io), AG16 I/O (io), AG17 I/O (io), AG18 I/O (io), AG19 I/O (io), AG20 I/O (io), AG21 I/O (io), AG22 I/O (io), AG23 I/O (io), AG24 I/O (io), AG25 I/O (io), AG26 I/O (io), AG30 I/O (io), AH2 I/O (io), AH4 I/O (io), AH6 I/O (io), AH7 I/O (io), AH8 I/O (io), AH9 I/O (io), AH10 I/O (io), AH11 I/O (io), AH12 I/O (io), AH13 I/O (io), AH14 I/O (io), AH15 I/O (io), AH16 I/O (io), AH17 I/O (io), AH18 I/O (io), AH19 I/O (io), AH20 I/O (io), AH21 I/O (io), AH22 I/O (io), AH23 I/O (io), AH24 I/O (io), AH25 I/O (io), AJ3 I/O (io)
part P pins: AJ5 I/O (io), AJ7 I/O (io), AJ8 I/O (io), AJ9 I/O (io), AJ10 I/O (io), AJ11 I/O (io), AJ12 I/O (io), AJ13 I/O (io), AJ14 I/O (io), AJ15 I/O (io), AJ16 I/O (io), AJ17 I/O (io), AJ18 I/O (io), AJ19 I/O (io), AJ20 I/O (io), AJ21 I/O (io), AJ22 I/O (io), AJ23 I/O (io), AJ24 I/O (io), AJ26 I/O (io), AK4 I/O (io), AK6 I/O (io), AK8 I/O (io), AK9 I/O (io), AK10 I/O (io), AK11 I/O (io), AK12 I/O (io), AK13 I/O (io), AK14 I/O (io), AK15 I/O (io), AK16 I/O (io), AK17 I/O (io), AK18 I/O (io), AK19 I/O (io), AK20 I/O (io), AK21 I/O (io), AK22 I/O (io), AK23 I/O (io), AK25 I/O (io), AK27 I/O (io)
part Q pins: R4 NPECL1 (in), R27 NPECL2 (in), T4 PPECL1 (I/P) (in), T26 PPECL2 (I/P) (in)
part R pins: AD23 TCK (in), AD25 ~{TRST} (in), AF27 TDO (out), AG28 RCK (in), AH27 TDI (in), AJ28 TMS (in)
part S pins: AA10 VDD (power), AA12 VDDP (power), AA13 VDDP (power), AA14 VDDP (power), AA15 VDDP (power), AA16 VDDP (power), AA17 VDDP (power), AA18 VDDP (power), AA19 VDDP (power), AA21 VDD (power), AB7 VDDP (power), AB9 VDD (power), AB22 VDD (power), AB24 VDDP (power), AD5 VDDP (power), AD7 VDD (power), AD9 VDDP (power), AD22 VDDP (power), AD24 VDD (power), AD26 VDDP (power), AE2 VDD (power), AE29 VDD (power), AF3 VDDP (power), AF5 VDD (power), AF7 VDDP (power), AF24 VDDP (power), AF26 VDD (power), AF28 VDDP (power), AG2 VDD (power), AG29 VDD (power), AH3 VDD (power), AH5 VDDP (power), AH26 VDDP (power), AH28 VDD (power), AH29 VPP (power), AJ4 VDD (power), AJ6 VDD (power), AJ25 VDD (power), AJ27 VDD (power), B4 VDD (power), B6 VDD (power), B25 VDD (power), B27 VDD (power), C3 VDD (power), C5 VDDP (power), C26 VDDP (power), C28 VDD (power), D2 VDD (power), D29 VDD (power), E3 VDDP (power), E5 VDD (power), E7 VDDP (power), E24 VDDP (power), E26 VDD (power), E28 VDDP (power), F2 VDD (power), F29 VDD (power), G5 VDDP (power), G7 VDD (power), G9 VDDP (power), G22 VDDP (power), G24 VDD (power), G26 VDDP (power), J7 VDDP (power), J9 VDD (power), J22 VDD (power), J24 VDDP (power), K10 VDD (power), K12 VDDP (power), K13 VDDP (power), K14 VDDP (power), K15 VDDP (power), K16 VDDP (power), K17 VDDP (power), K18 VDDP (power), K19 VDDP (power), K21 VDD (power), L11 VDD (power), L12 VDD (power), L13 VDD (power), L14 VDD (power), L15 VDD (power), L16 VDD (power), L17 VDD (power), L18 VDD (power), L19 VDD (power), L20 VDD (power), M10 VDDP (power), M11 VDD (power), M20 VDD (power), M21 VDDP (power), N10 VDDP (power), N11 VDD (power), N20 VDD (power), N21 VDDP (power), P10 VDDP (power), P11 VDD (power), P20 VDD (power), P21 VDDP (power), R10 VDDP (power), R11 VDD (power), R20 VDD (power), R21 VDDP (power), T10 VDDP (power), T11 VDD (power), T20 VDD (power), T21 VDDP (power), U10 VDDP (power), U11 VDD (power), U20 VDD (power), U21 VDDP (power), V10 VDDP (power), V11 VDD (power), V20 VDD (power), V21 VDDP (power), W10 VDDP (power), W11 VDD (power), W20 VDD (power), W21 VDDP (power), Y11 VDD (power), Y12 VDD (power), Y13 VDD (power), Y14 VDD (power), Y15 VDD (power), Y16 VDD (power), Y17 VDD (power), Y18 VDD (power), Y19 VDD (power), Y20 VDD (power)
part T pins: A2 GND (power), A3 GND (power), A5 GND (power), A7 GND (power), A24 GND (power), A26 GND (power), A28 GND (power), A29 GND (power), AC8 GND (power), AC23 GND (power), AD1 GND (power), AD30 GND (power), AE6 GND (power), AE25 GND (power), AF1 GND (power), AF29 VPN (power), AF30 GND (power), AG4 GND (power), AG27 GND (power), AH1 GND (power), AH30 GND (power), AJ1 GND (power), AJ2 GND (power), AJ29 GND (power), AJ30 GND (power), AK2 GND (power), AK3 GND (power), AK5 GND (power), AK7 GND (power), AK24 GND (power), AK26 GND (power), AK28 GND (power), AK29 GND (power), B1 GND (power), B2 GND (power), B29 GND (power), B30 GND (power), C1 GND (power), C30 GND (power), D4 GND (power), D27 GND (power), E1 GND (power), E30 GND (power), F6 GND (power), F25 GND (power), G1 GND (power), G30 GND (power), H8 GND (power), H23 GND (power), M12 GND (power), M13 GND (power), M14 GND (power), M15 GND (power), M16 GND (power), M17 GND (power), M18 GND (power), M19 GND (power), N12 GND (power), N13 GND (power), N14 GND (power), N15 GND (power), N16 GND (power), N17 GND (power), N18 GND (power), N19 GND (power), P12 GND (power), P13 GND (power), P14 GND (power), P15 GND (power), P16 GND (power), P17 GND (power), P18 GND (power), P19 GND (power), R12 GND (power), R13 GND (power), R14 GND (power), R15 GND (power), R16 GND (power), R17 GND (power), R18 GND (power), R19 GND (power), T12 GND (power), T13 GND (power), T14 GND (power), T15 GND (power), T16 GND (power), T17 GND (power), T18 GND (power), T19 GND (power), U12 GND (power), U13 GND (power), U14 GND (power), U15 GND (power), U16 GND (power), U17 GND (power), U18 GND (power), U19 GND (power), V12 GND (power), V13 GND (power), V14 GND (power), V15 GND (power), V16 GND (power), V17 GND (power), V18 GND (power), V19 GND (power), W12 GND (power), W13 GND (power), W14 GND (power), W15 GND (power), W16 GND (power), W17 GND (power), W18 GND (power), W19 GND (power)
part U pins: R3 AGND (power), R28 AGND (power), T2 AVDD (power), T29 AVDD (power)

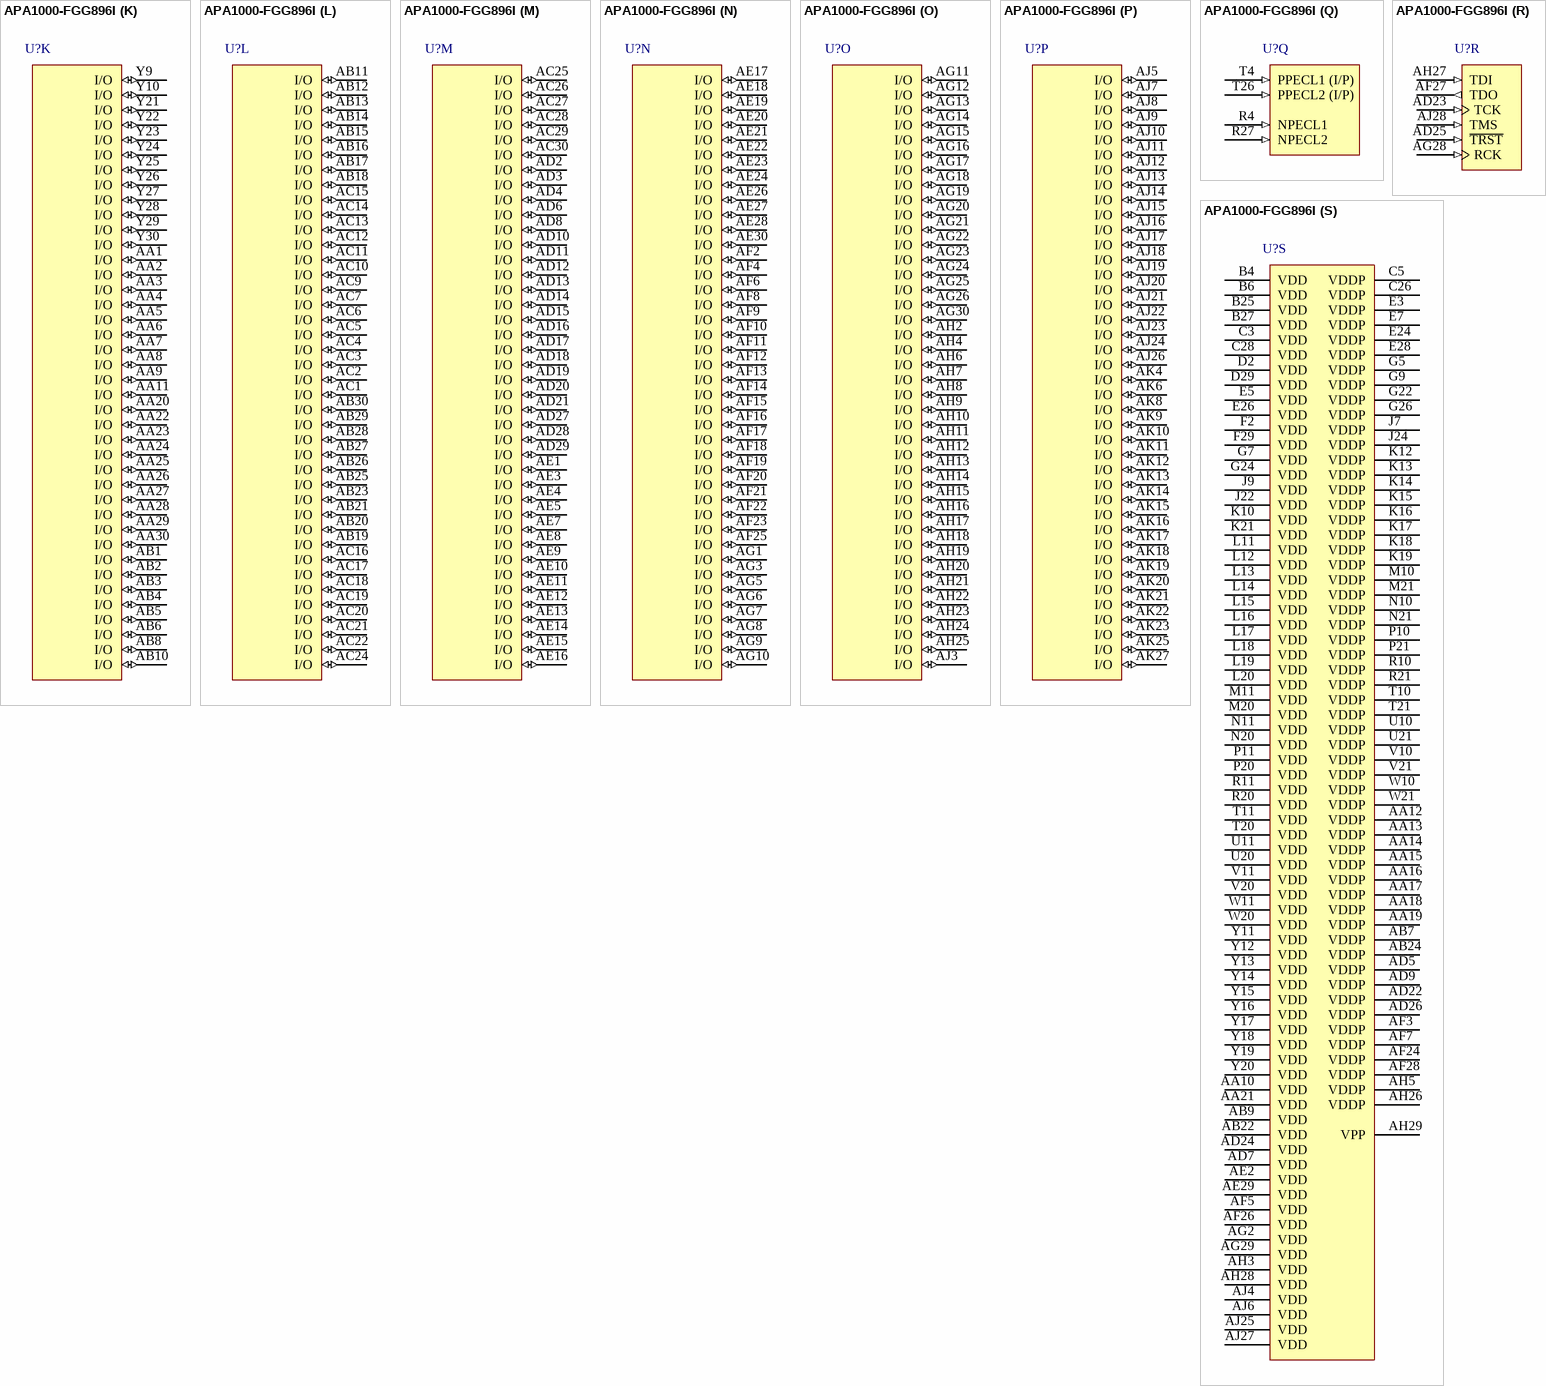
[diagram p154: symbol APA1000-FGG896I]

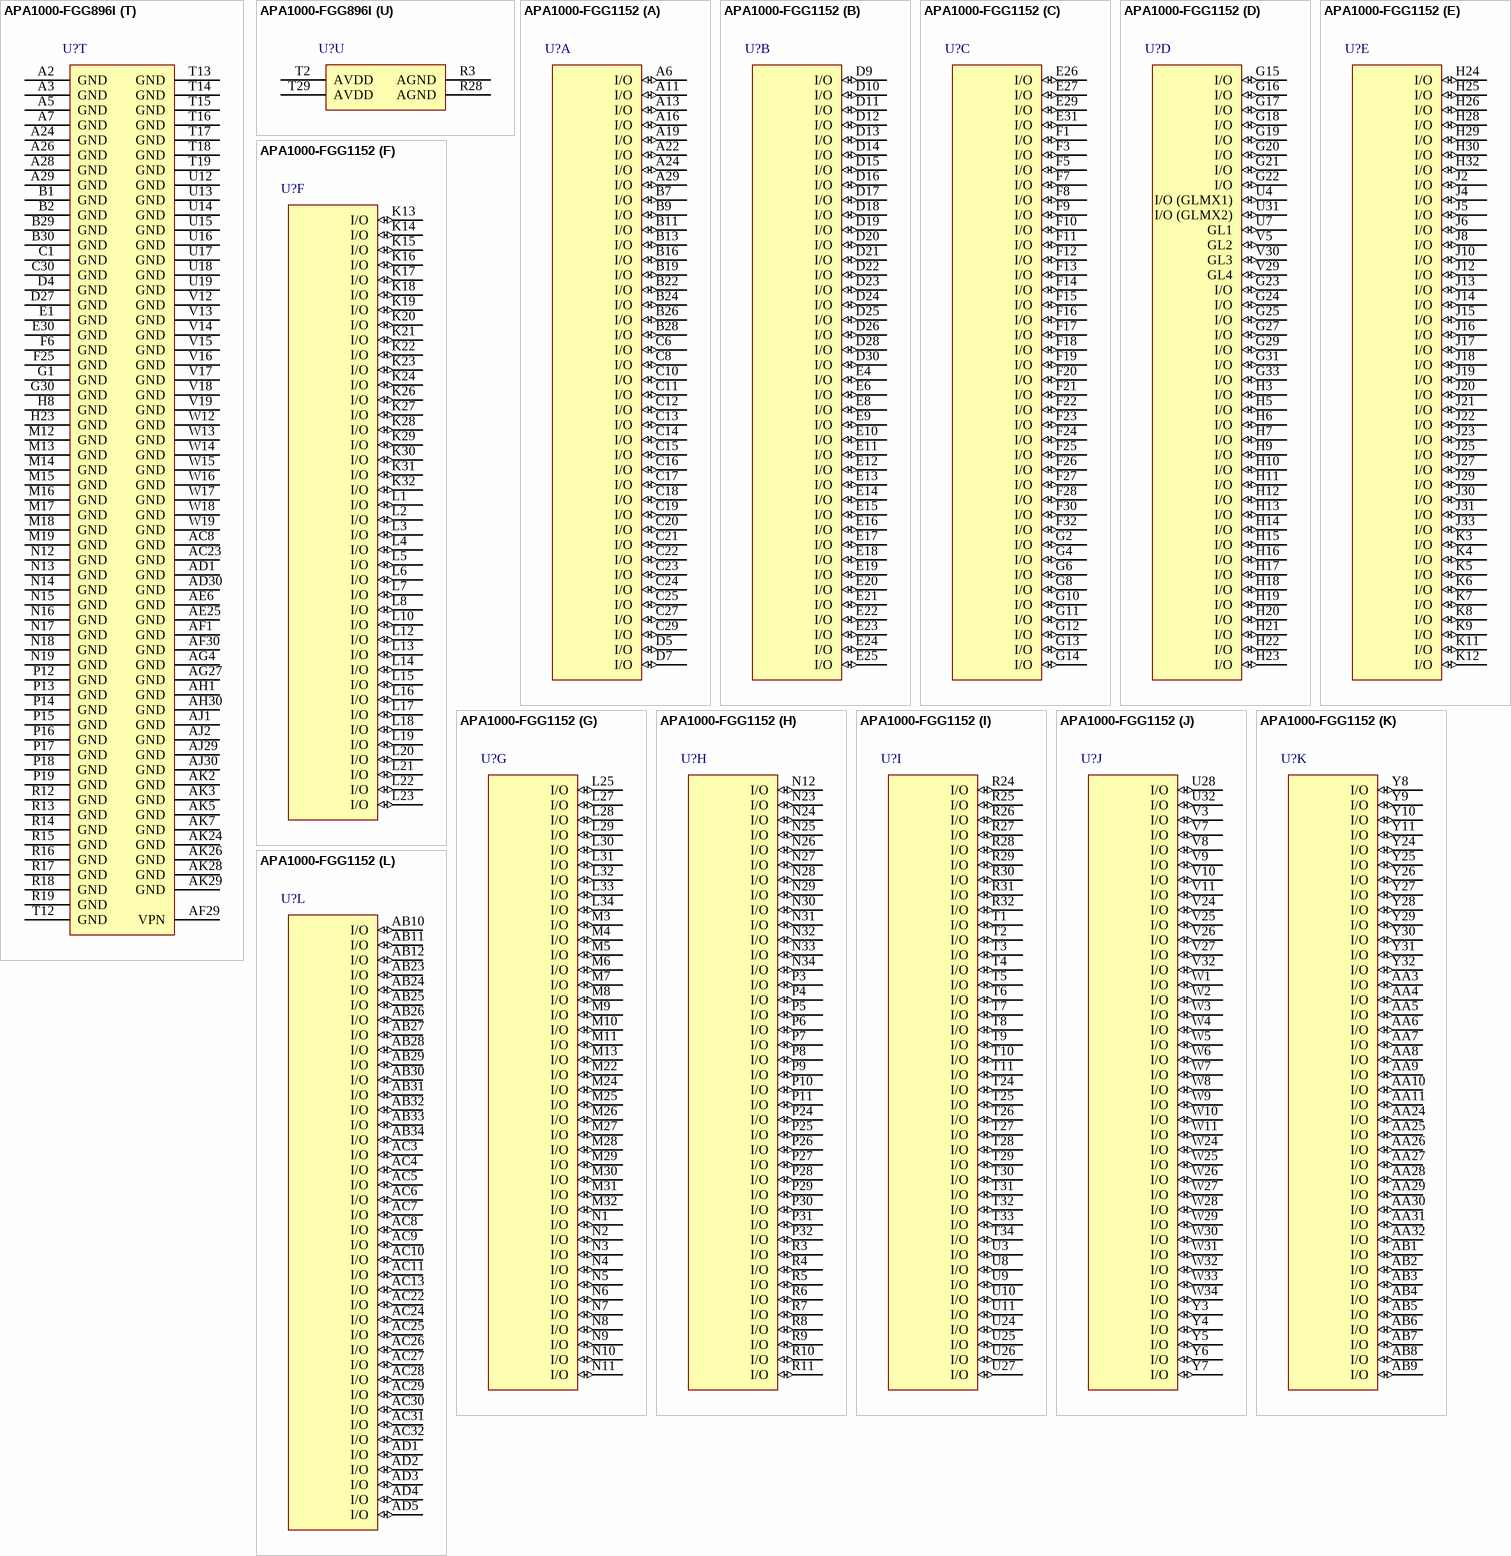
[diagram p155: symbols APA1000-FGG896I to APA1000-FGG1152]

## APA1000-FGG896I
designator U?
ProASICPlus APA1000 Flash FPGA, 642 User IOs, 896-Pin FBGA, Speed Grade Standard, Industrial Grade, Pb-Free; Published: 16-Dec-2005; LatestRevisionDate: 13-Apr-2006; LatestRevisionNote: IPC-7351 Footprint Added.; DatasheetVersion: ver5.3, May-2006; PackageVersion: v9.4, Aug-2006; PackageReference: FG896; Publisher: Altium Limited; PackageDescription: 896-Ball Fine Pitch Plastic Ball Grid Array (FG896); Code_JEDEC: MS-034-AAN-1; ComponentLink1Description: Manufacturer Link; ComponentLink1URL: http://www.actel.com/products/proasicplus/index.html; ComponentLink2Description: Datasheet; ComponentLink2URL: http://www.actel.com/documents/ProASICPlus_DS.pdf
footprint FG896 (BGA, 896-Leads, Body 31x31mm, Pitch 1mm)
3D model APA1000-FG896 (896-Ball Fine Pitch Plastic Ball Grid Array (FG896))
part A pins: A4 I/O (io), A6 I/O (io), A8 I/O (io), A9 I/O (io), A10 I/O (io), A11 I/O (io), A12 I/O (io), A13 I/O (io), A14 I/O (io), A15 I/O (io), A16 I/O (io), A17 I/O (io), A18 I/O (io), A19 I/O (io), A20 I/O (io), A21 I/O (io), A22 I/O (io), A23 I/O (io), A25 I/O (io), A27 I/O (io), B3 I/O (io), B5 I/O (io), B7 I/O (io), B8 I/O (io), B9 I/O (io), B10 I/O (io), B11 I/O (io), B12 I/O (io), B13 I/O (io), B14 I/O (io), B15 I/O (io), B16 I/O (io), B17 I/O (io), B18 I/O (io), B19 I/O (io), B20 I/O (io), B21 I/O (io), B22 I/O (io), B23 I/O (io), B24 I/O (io)
part B pins: B26 I/O (io), B28 I/O (io), C2 I/O (io), C4 I/O (io), C6 I/O (io), C7 I/O (io), C8 I/O (io), C9 I/O (io), C10 I/O (io), C11 I/O (io), C12 I/O (io), C13 I/O (io), C14 I/O (io), C15 I/O (io), C16 I/O (io), C17 I/O (io), C18 I/O (io), C19 I/O (io), C20 I/O (io), C21 I/O (io), C22 I/O (io), C23 I/O (io), C24 I/O (io), C25 I/O (io), C27 I/O (io), C29 I/O (io), D1 I/O (io), D3 I/O (io), D5 I/O (io), D6 I/O (io), D7 I/O (io), D8 I/O (io), D9 I/O (io), D10 I/O (io), D11 I/O (io), D12 I/O (io), D13 I/O (io), D14 I/O (io), D15 I/O (io), D16 I/O (io)
part C pins: D17 I/O (io), D18 I/O (io), D19 I/O (io), D20 I/O (io), D21 I/O (io), D22 I/O (io), D23 I/O (io), D24 I/O (io), D25 I/O (io), D26 I/O (io), D28 I/O (io), D30 I/O (io), E2 I/O (io), E4 I/O (io), E6 I/O (io), E8 I/O (io), E9 I/O (io), E10 I/O (io), E11 I/O (io), E12 I/O (io), E13 I/O (io), E14 I/O (io), E15 I/O (io), E16 I/O (io), E17 I/O (io), E18 I/O (io), E19 I/O (io), E20 I/O (io), E21 I/O (io), E22 I/O (io), E23 I/O (io), E25 I/O (io), E27 I/O (io), E29 I/O (io), F1 I/O (io), F3 I/O (io), F4 I/O (io), F5 I/O (io), F7 I/O (io), F8 I/O (io)
part D pins: F9 I/O (io), F10 I/O (io), F11 I/O (io), F12 I/O (io), F13 I/O (io), F14 I/O (io), F15 I/O (io), F16 I/O (io), F17 I/O (io), F18 I/O (io), F19 I/O (io), F20 I/O (io), F21 I/O (io), F22 I/O (io), F23 I/O (io), F24 I/O (io), F26 I/O (io), F27 I/O (io), F28 I/O (io), F30 I/O (io), G2 I/O (io), G3 I/O (io), G4 I/O (io), G6 I/O (io), G8 I/O (io), G10 I/O (io), G11 I/O (io), G12 I/O (io), G13 I/O (io), G14 I/O (io), G15 I/O (io), G16 I/O (io), G17 I/O (io), G18 I/O (io), R2 I/O (GLMX1) (io), R5 GL1 (io), R29 I/O (GLMX2) (io), T3 GL2 (io), T27 GL4 (io), T28 GL3 (io)
part E pins: G19 I/O (io), G20 I/O (io), G21 I/O (io), G23 I/O (io), G25 I/O (io), G27 I/O (io), G28 I/O (io), G29 I/O (io), H1 I/O (io), H2 I/O (io), H3 I/O (io), H4 I/O (io), H5 I/O (io), H6 I/O (io), H7 I/O (io), H9 I/O (io), H10 I/O (io), H11 I/O (io), H12 I/O (io), H13 I/O (io), H14 I/O (io), H15 I/O (io), H16 I/O (io), H17 I/O (io), H18 I/O (io), H19 I/O (io), H20 I/O (io), H21 I/O (io), H22 I/O (io), H24 I/O (io), H25 I/O (io), H26 I/O (io), H27 I/O (io), H28 I/O (io), H29 I/O (io), H30 I/O (io), J1 I/O (io), J2 I/O (io), J3 I/O (io), J4 I/O (io)
part F pins: J5 I/O (io), J6 I/O (io), J8 I/O (io), J10 I/O (io), J11 I/O (io), J12 I/O (io), J13 I/O (io), J14 I/O (io), J15 I/O (io), J16 I/O (io), J17 I/O (io), J18 I/O (io), J19 I/O (io), J20 I/O (io), J21 I/O (io), J23 I/O (io), J25 I/O (io), J26 I/O (io), J27 I/O (io), J28 I/O (io), J29 I/O (io), J30 I/O (io), K1 I/O (io), K2 I/O (io), K3 I/O (io), K4 I/O (io), K5 I/O (io), K6 I/O (io), K7 I/O (io), K8 I/O (io), K9 I/O (io), K11 I/O (io), K20 I/O (io), K22 I/O (io), K23 I/O (io), K24 I/O (io), K25 I/O (io), K26 I/O (io), K27 I/O (io), K28 I/O (io)
part G pins: K29 I/O (io), K30 I/O (io), L1 I/O (io), L2 I/O (io), L3 I/O (io), L4 I/O (io), L5 I/O (io), L6 I/O (io), L7 I/O (io), L8 I/O (io), L9 I/O (io), L10 I/O (io), L21 I/O (io), L22 I/O (io), L23 I/O (io), L24 I/O (io), L25 I/O (io), L26 I/O (io), L27 I/O (io), L28 I/O (io), L29 I/O (io), L30 I/O (io), M1 I/O (io), M2 I/O (io), M3 I/O (io), M4 I/O (io), M5 I/O (io), M6 I/O (io), M7 I/O (io), M8 I/O (io), M9 I/O (io), M22 I/O (io), M23 I/O (io), M24 I/O (io), M25 I/O (io), M26 I/O (io), M27 I/O (io), M28 I/O (io), M29 I/O (io), M30 I/O (io)
part H pins: N1 I/O (io), N2 I/O (io), N3 I/O (io), N4 I/O (io), N5 I/O (io), N6 I/O (io), N7 I/O (io), N8 I/O (io), N9 I/O (io), N22 I/O (io), N23 I/O (io), N24 I/O (io), N25 I/O (io), N26 I/O (io), N27 I/O (io), N28 I/O (io), N29 I/O (io), N30 I/O (io), P1 I/O (io), P2 I/O (io), P3 I/O (io), P4 I/O (io), P5 I/O (io), P6 I/O (io), P7 I/O (io), P8 I/O (io), P9 I/O (io), P22 I/O (io), P23 I/O (io), P24 I/O (io), P25 I/O (io), P26 I/O (io), P27 I/O (io), P28 I/O (io), P29 I/O (io), P30 I/O (io), R1 I/O (io), R6 I/O (io), R7 I/O (io), R8 I/O (io)
part I pins: R9 I/O (io), R22 I/O (io), R23 I/O (io), R24 I/O (io), R25 I/O (io), R26 I/O (io), R30 I/O (io), T1 I/O (io), T5 I/O (io), T6 I/O (io), T7 I/O (io), T8 I/O (io), T9 I/O (io), T22 I/O (io), T23 I/O (io), T24 I/O (io), T25 I/O (io), T30 I/O (io), U1 I/O (io), U2 I/O (io), U3 I/O (io), U4 I/O (io), U5 I/O (io), U6 I/O (io), U7 I/O (io), U8 I/O (io), U9 I/O (io), U22 I/O (io), U23 I/O (io), U24 I/O (io), U25 I/O (io), U26 I/O (io), U27 I/O (io), U28 I/O (io), U29 I/O (io), U30 I/O (io), V1 I/O (io), V2 I/O (io), V3 I/O (io), V4 I/O (io)
part J pins: V5 I/O (io), V6 I/O (io), V7 I/O (io), V8 I/O (io), V9 I/O (io), V22 I/O (io), V23 I/O (io), V24 I/O (io), V25 I/O (io), V26 I/O (io), V27 I/O (io), V28 I/O (io), V29 I/O (io), V30 I/O (io), W1 I/O (io), W2 I/O (io), W3 I/O (io), W4 I/O (io), W5 I/O (io), W6 I/O (io), W7 I/O (io), W8 I/O (io), W9 I/O (io), W22 I/O (io), W23 I/O (io), W24 I/O (io), W25 I/O (io), W26 I/O (io), W27 I/O (io), W28 I/O (io), W29 I/O (io), W30 I/O (io), Y1 I/O (io), Y2 I/O (io), Y3 I/O (io), Y4 I/O (io), Y5 I/O (io), Y6 I/O (io), Y7 I/O (io), Y8 I/O (io)
part K pins: AA1 I/O (io), AA2 I/O (io), AA3 I/O (io), AA4 I/O (io), AA5 I/O (io), AA6 I/O (io), AA7 I/O (io), AA8 I/O (io), AA9 I/O (io), AA11 I/O (io), AA20 I/O (io), AA22 I/O (io), AA23 I/O (io), AA24 I/O (io), AA25 I/O (io), AA26 I/O (io), AA27 I/O (io), AA28 I/O (io), AA29 I/O (io), AA30 I/O (io), AB1 I/O (io), AB2 I/O (io), AB3 I/O (io), AB4 I/O (io), AB5 I/O (io), AB6 I/O (io), AB8 I/O (io), AB10 I/O (io), Y9 I/O (io), Y10 I/O (io), Y21 I/O (io), Y22 I/O (io), Y23 I/O (io), Y24 I/O (io), Y25 I/O (io), Y26 I/O (io), Y27 I/O (io), Y28 I/O (io), Y29 I/O (io), Y30 I/O (io)
part L pins: AB11 I/O (io), AB12 I/O (io), AB13 I/O (io), AB14 I/O (io), AB15 I/O (io), AB16 I/O (io), AB17 I/O (io), AB18 I/O (io), AB19 I/O (io), AB20 I/O (io), AB21 I/O (io), AB23 I/O (io), AB25 I/O (io), AB26 I/O (io), AB27 I/O (io), AB28 I/O (io), AB29 I/O (io), AB30 I/O (io), AC1 I/O (io), AC2 I/O (io), AC3 I/O (io), AC4 I/O (io), AC5 I/O (io), AC6 I/O (io), AC7 I/O (io), AC9 I/O (io), AC10 I/O (io), AC11 I/O (io), AC12 I/O (io), AC13 I/O (io), AC14 I/O (io), AC15 I/O (io), AC16 I/O (io), AC17 I/O (io), AC18 I/O (io), AC19 I/O (io), AC20 I/O (io), AC21 I/O (io), AC22 I/O (io), AC24 I/O (io)
part M pins: AC25 I/O (io), AC26 I/O (io), AC27 I/O (io), AC28 I/O (io), AC29 I/O (io), AC30 I/O (io), AD2 I/O (io), AD3 I/O (io), AD4 I/O (io), AD6 I/O (io), AD8 I/O (io), AD10 I/O (io), AD11 I/O (io), AD12 I/O (io), AD13 I/O (io), AD14 I/O (io), AD15 I/O (io), AD16 I/O (io), AD17 I/O (io), AD18 I/O (io), AD19 I/O (io), AD20 I/O (io), AD21 I/O (io), AD27 I/O (io), AD28 I/O (io), AD29 I/O (io), AE1 I/O (io), AE3 I/O (io), AE4 I/O (io), AE5 I/O (io), AE7 I/O (io), AE8 I/O (io), AE9 I/O (io), AE10 I/O (io), AE11 I/O (io), AE12 I/O (io), AE13 I/O (io), AE14 I/O (io), AE15 I/O (io), AE16 I/O (io)
part N pins: AE17 I/O (io), AE18 I/O (io), AE19 I/O (io), AE20 I/O (io), AE21 I/O (io), AE22 I/O (io), AE23 I/O (io), AE24 I/O (io), AE26 I/O (io), AE27 I/O (io), AE28 I/O (io), AE30 I/O (io), AF2 I/O (io), AF4 I/O (io), AF6 I/O (io), AF8 I/O (io), AF9 I/O (io), AF10 I/O (io), AF11 I/O (io), AF12 I/O (io), AF13 I/O (io), AF14 I/O (io), AF15 I/O (io), AF16 I/O (io), AF17 I/O (io), AF18 I/O (io), AF19 I/O (io), AF20 I/O (io), AF21 I/O (io), AF22 I/O (io), AF23 I/O (io), AF25 I/O (io), AG1 I/O (io), AG3 I/O (io), AG5 I/O (io), AG6 I/O (io), AG7 I/O (io), AG8 I/O (io), AG9 I/O (io), AG10 I/O (io)
part O pins: AG11 I/O (io), AG12 I/O (io), AG13 I/O (io), AG14 I/O (io), AG15 I/O (io), AG16 I/O (io), AG17 I/O (io), AG18 I/O (io), AG19 I/O (io), AG20 I/O (io), AG21 I/O (io), AG22 I/O (io), AG23 I/O (io), AG24 I/O (io), AG25 I/O (io), AG26 I/O (io), AG30 I/O (io), AH2 I/O (io), AH4 I/O (io), AH6 I/O (io), AH7 I/O (io), AH8 I/O (io), AH9 I/O (io), AH10 I/O (io), AH11 I/O (io), AH12 I/O (io), AH13 I/O (io), AH14 I/O (io), AH15 I/O (io), AH16 I/O (io), AH17 I/O (io), AH18 I/O (io), AH19 I/O (io), AH20 I/O (io), AH21 I/O (io), AH22 I/O (io), AH23 I/O (io), AH24 I/O (io), AH25 I/O (io), AJ3 I/O (io)
part P pins: AJ5 I/O (io), AJ7 I/O (io), AJ8 I/O (io), AJ9 I/O (io), AJ10 I/O (io), AJ11 I/O (io), AJ12 I/O (io), AJ13 I/O (io), AJ14 I/O (io), AJ15 I/O (io), AJ16 I/O (io), AJ17 I/O (io), AJ18 I/O (io), AJ19 I/O (io), AJ20 I/O (io), AJ21 I/O (io), AJ22 I/O (io), AJ23 I/O (io), AJ24 I/O (io), AJ26 I/O (io), AK4 I/O (io), AK6 I/O (io), AK8 I/O (io), AK9 I/O (io), AK10 I/O (io), AK11 I/O (io), AK12 I/O (io), AK13 I/O (io), AK14 I/O (io), AK15 I/O (io), AK16 I/O (io), AK17 I/O (io), AK18 I/O (io), AK19 I/O (io), AK20 I/O (io), AK21 I/O (io), AK22 I/O (io), AK23 I/O (io), AK25 I/O (io), AK27 I/O (io)
part Q pins: R4 NPECL1 (in), R27 NPECL2 (in), T4 PPECL1 (I/P) (in), T26 PPECL2 (I/P) (in)
part R pins: AD23 TCK (in), AD25 ~{TRST} (in), AF27 TDO (out), AG28 RCK (in), AH27 TDI (in), AJ28 TMS (in)
part S pins: AA10 VDD (power), AA12 VDDP (power), AA13 VDDP (power), AA14 VDDP (power), AA15 VDDP (power), AA16 VDDP (power), AA17 VDDP (power), AA18 VDDP (power), AA19 VDDP (power), AA21 VDD (power), AB7 VDDP (power), AB9 VDD (power), AB22 VDD (power), AB24 VDDP (power), AD5 VDDP (power), AD7 VDD (power), AD9 VDDP (power), AD22 VDDP (power), AD24 VDD (power), AD26 VDDP (power), AE2 VDD (power), AE29 VDD (power), AF3 VDDP (power), AF5 VDD (power), AF7 VDDP (power), AF24 VDDP (power), AF26 VDD (power), AF28 VDDP (power), AG2 VDD (power), AG29 VDD (power), AH3 VDD (power), AH5 VDDP (power), AH26 VDDP (power), AH28 VDD (power), AH29 VPP (power), AJ4 VDD (power), AJ6 VDD (power), AJ25 VDD (power), AJ27 VDD (power), B4 VDD (power), B6 VDD (power), B25 VDD (power), B27 VDD (power), C3 VDD (power), C5 VDDP (power), C26 VDDP (power), C28 VDD (power), D2 VDD (power), D29 VDD (power), E3 VDDP (power), E5 VDD (power), E7 VDDP (power), E24 VDDP (power), E26 VDD (power), E28 VDDP (power), F2 VDD (power), F29 VDD (power), G5 VDDP (power), G7 VDD (power), G9 VDDP (power), G22 VDDP (power), G24 VDD (power), G26 VDDP (power), J7 VDDP (power), J9 VDD (power), J22 VDD (power), J24 VDDP (power), K10 VDD (power), K12 VDDP (power), K13 VDDP (power), K14 VDDP (power), K15 VDDP (power), K16 VDDP (power), K17 VDDP (power), K18 VDDP (power), K19 VDDP (power), K21 VDD (power), L11 VDD (power), L12 VDD (power), L13 VDD (power), L14 VDD (power), L15 VDD (power), L16 VDD (power), L17 VDD (power), L18 VDD (power), L19 VDD (power), L20 VDD (power), M10 VDDP (power), M11 VDD (power), M20 VDD (power), M21 VDDP (power), N10 VDDP (power), N11 VDD (power), N20 VDD (power), N21 VDDP (power), P10 VDDP (power), P11 VDD (power), P20 VDD (power), P21 VDDP (power), R10 VDDP (power), R11 VDD (power), R20 VDD (power), R21 VDDP (power), T10 VDDP (power), T11 VDD (power), T20 VDD (power), T21 VDDP (power), U10 VDDP (power), U11 VDD (power), U20 VDD (power), U21 VDDP (power), V10 VDDP (power), V11 VDD (power), V20 VDD (power), V21 VDDP (power), W10 VDDP (power), W11 VDD (power), W20 VDD (power), W21 VDDP (power), Y11 VDD (power), Y12 VDD (power), Y13 VDD (power), Y14 VDD (power), Y15 VDD (power), Y16 VDD (power), Y17 VDD (power), Y18 VDD (power), Y19 VDD (power), Y20 VDD (power)
part T pins: A2 GND (power), A3 GND (power), A5 GND (power), A7 GND (power), A24 GND (power), A26 GND (power), A28 GND (power), A29 GND (power), AC8 GND (power), AC23 GND (power), AD1 GND (power), AD30 GND (power), AE6 GND (power), AE25 GND (power), AF1 GND (power), AF29 VPN (power), AF30 GND (power), AG4 GND (power), AG27 GND (power), AH1 GND (power), AH30 GND (power), AJ1 GND (power), AJ2 GND (power), AJ29 GND (power), AJ30 GND (power), AK2 GND (power), AK3 GND (power), AK5 GND (power), AK7 GND (power), AK24 GND (power), AK26 GND (power), AK28 GND (power), AK29 GND (power), B1 GND (power), B2 GND (power), B29 GND (power), B30 GND (power), C1 GND (power), C30 GND (power), D4 GND (power), D27 GND (power), E1 GND (power), E30 GND (power), F6 GND (power), F25 GND (power), G1 GND (power), G30 GND (power), H8 GND (power), H23 GND (power), M12 GND (power), M13 GND (power), M14 GND (power), M15 GND (power), M16 GND (power), M17 GND (power), M18 GND (power), M19 GND (power), N12 GND (power), N13 GND (power), N14 GND (power), N15 GND (power), N16 GND (power), N17 GND (power), N18 GND (power), N19 GND (power), P12 GND (power), P13 GND (power), P14 GND (power), P15 GND (power), P16 GND (power), P17 GND (power), P18 GND (power), P19 GND (power), R12 GND (power), R13 GND (power), R14 GND (power), R15 GND (power), R16 GND (power), R17 GND (power), R18 GND (power), R19 GND (power), T12 GND (power), T13 GND (power), T14 GND (power), T15 GND (power), T16 GND (power), T17 GND (power), T18 GND (power), T19 GND (power), U12 GND (power), U13 GND (power), U14 GND (power), U15 GND (power), U16 GND (power), U17 GND (power), U18 GND (power), U19 GND (power), V12 GND (power), V13 GND (power), V14 GND (power), V15 GND (power), V16 GND (power), V17 GND (power), V18 GND (power), V19 GND (power), W12 GND (power), W13 GND (power), W14 GND (power), W15 GND (power), W16 GND (power), W17 GND (power), W18 GND (power), W19 GND (power)
part U pins: R3 AGND (power), R28 AGND (power), T2 AVDD (power), T29 AVDD (power)

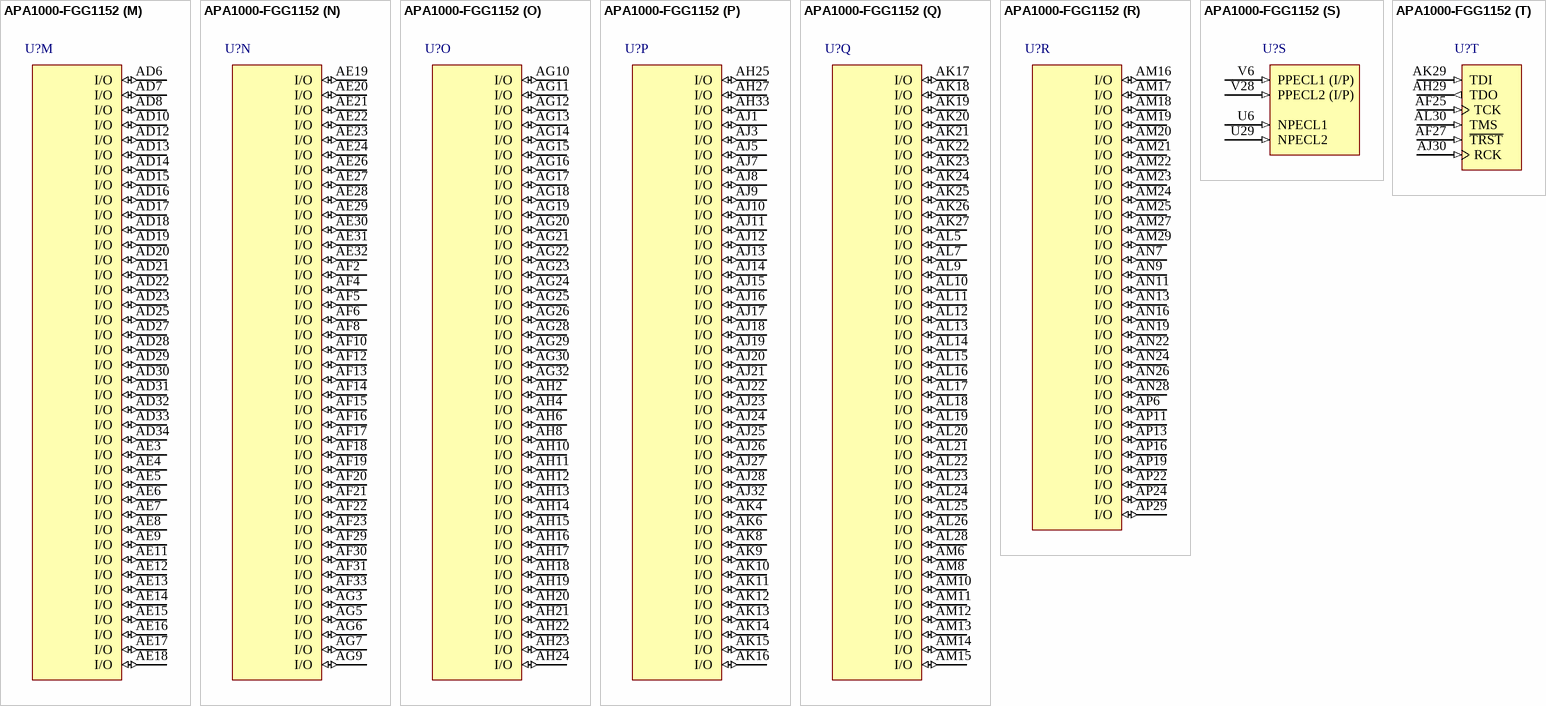
[diagram p156: symbol APA1000-FGG1152]

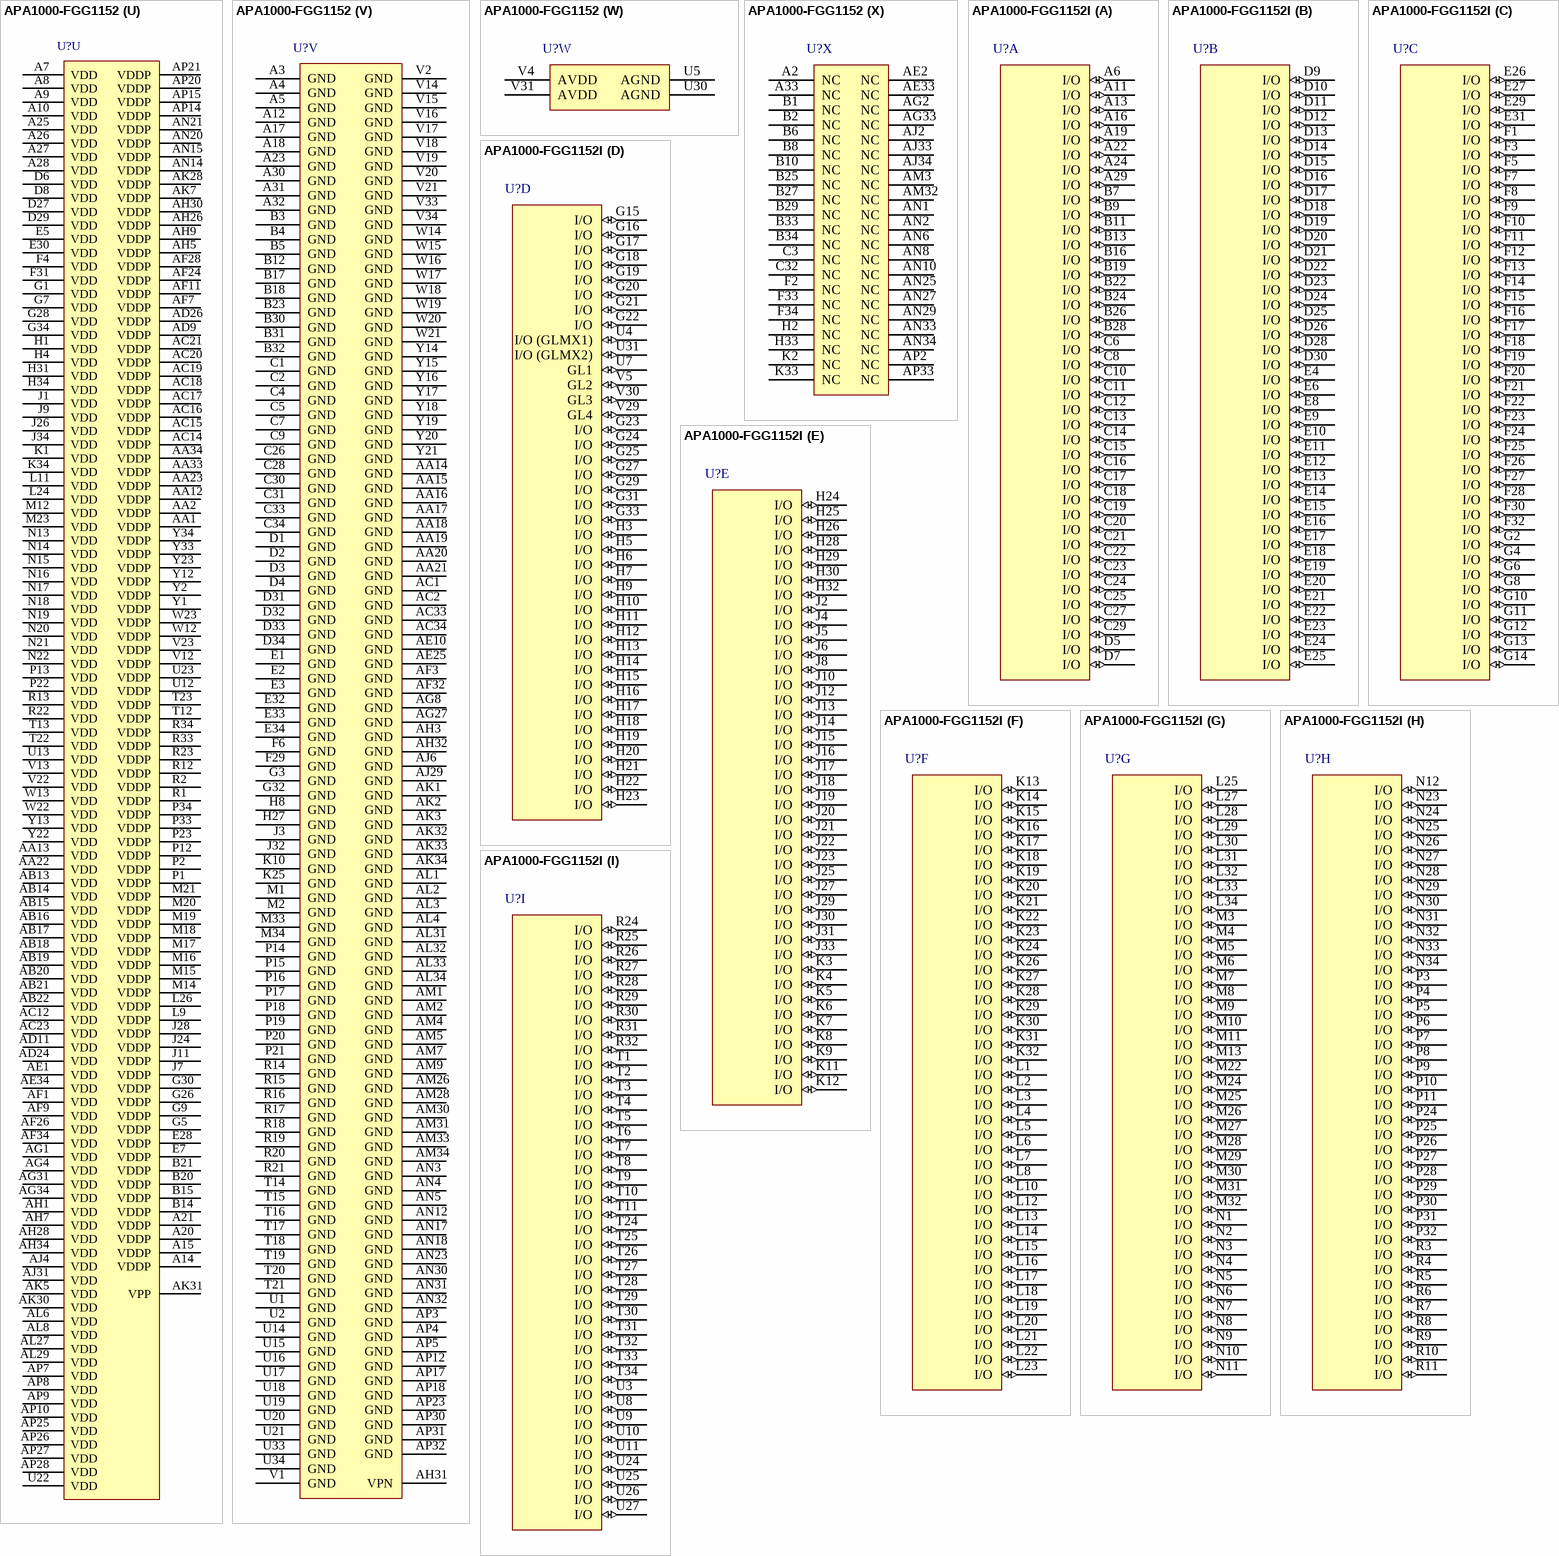
[diagram p157: symbols APA1000-FGG1152 to APA1000-FGG1152I]